# Altium schematic symbol library ARS_lib_SCH.SchLib: 116 symbols (part 1 of 2)
Pins are listed as number, name and electrical type; pins without a type are passive.

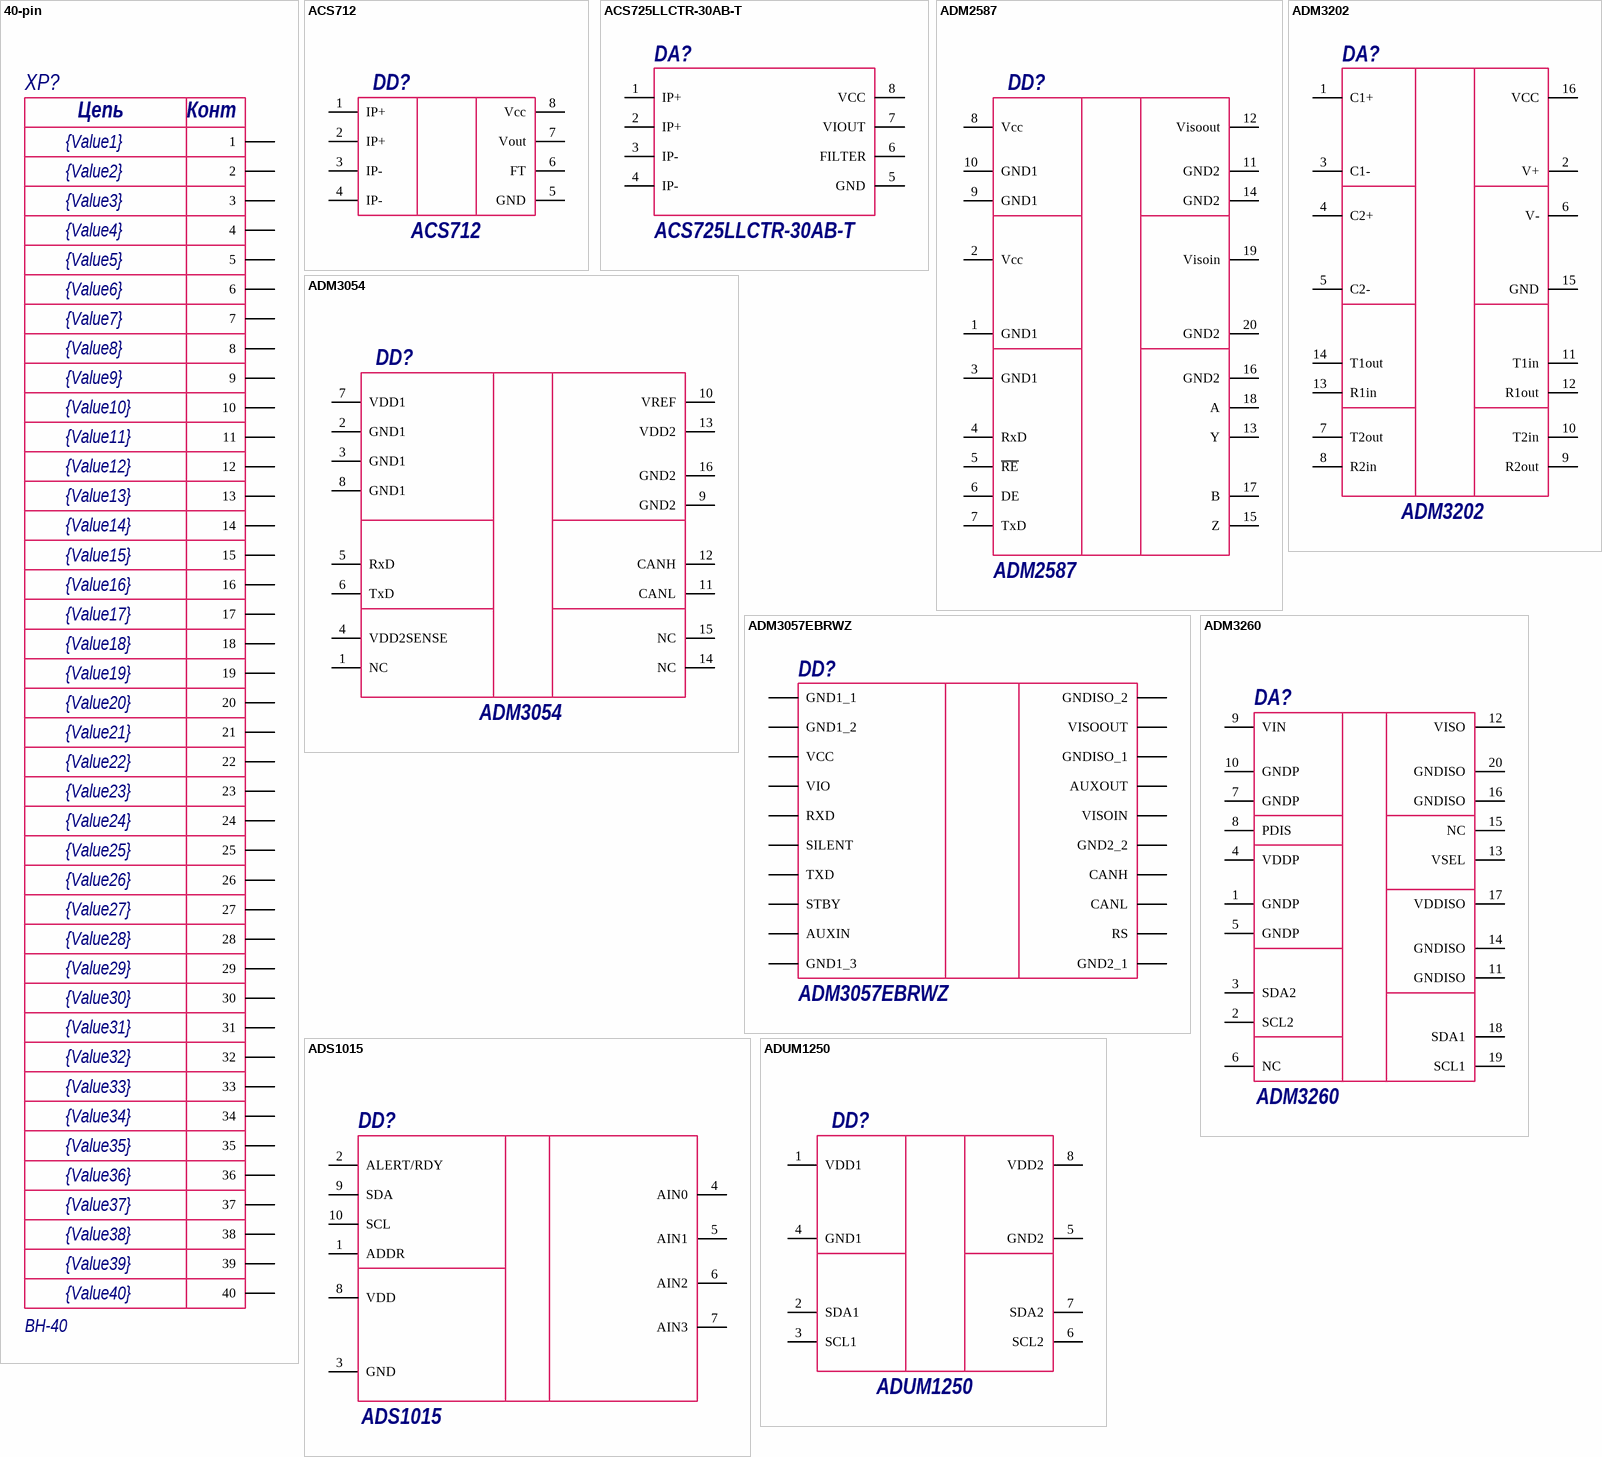
[diagram p0: symbols 40-pin to ADUM1250]

## 40-pin
designator XP?  value BH-40  Value10: {Value10}  Value11: {Value11}  Value12: {Value12}  Value13: {Value13}  Value14: {Value14}  Value15: {Value15}  Value16: {Value16}  Value17: {Value17}  Value18: {Value18}  Value1: {Value1}  Value2: {Value2}  Value3: {Value3}  Value4: {Value4}  Value5: {Value5}  Value6: {Value6}  Value7: {Value7}  Value8: {Value8}  Value9: {Value9}  Value19: {Value19}  Value20: {Value20}  Value21: {Value21}  Value22: {Value22}  Value23: {Value23}  Value24: {Value24}  Value25: {Value25}  Value26: {Value26}  Value27: {Value27}  Value28: {Value28}  Value29: {Value29}  Value30: {Value30}  Value31: {Value31}  Value32: {Value32}  Value33: {Value33}  Value34: {Value34}  Value35: {Value35}  Value36: {Value36}  Value37: {Value37}  Value38: {Value38}  Value39: {Value39}  Value40: {Value40}  (hidden comment: *)
Manufacturer: Connfly; Notice: Вилка-мама 40 пинов, шаг 2.54мм; Rate: 500В AC 1min; Case: корпус; Datasheet: https://lib.chipdip.ru/463/DOC002463525.pdf; Shop: https://www.chipdip.ru/product/idc-40ms
footprint PC - 104 20X2 (Connector; Header; 20x2 Position)
pins: 1, 2, 3, 4, 5, 6, 7, 8, 9, 10, 11, 12, 13, 14, 15, 16, 17, 18, 19, 20, 21, 22, 23, 24, 25, 26, 27, 28, 29, 30, 31, 32, 33, 34, 35, 36, 37, 38, 39, 40
text: Цепь; Конт

## ACS712
designator DD?
Manufacturer: Allegro Microsystems; Rate: 4,5...5,5В; Notice: Датчик постоянного тока на эффекте Холла; Datasheet: http://www.allegromicro.com/~/media/Files/Datasheets/ACS712-Datasheet.ashx; Shop: https://www.chipdip.ru/product/acs712elctr-05b-t; Value: ACS712
footprint SOIC8N (SOIC, 8-Leads, Body 4,90x3,90mm, Pitch 1,27mm, IPC Medium Density)
pins: 1 IP+, 2 IP+, 3 IP-, 4 IP-, 5 GND, 6 FT, 7 Vout, 8 Vcc

## ACS725LLCTR-30AB-T
designator DA?  value ACS725LLCTR-30AB-T  (hidden comment: *)
Датчик тока; New: N; PartNumber: *
footprint SOIC127P600X175-8N
pins: 1 IP+, 2 IP+, 3 IP-, 4 IP-, 5 GND, 6 FILTER, 7 VIOUT, 8 VCC

## ADM2587
designator DD?
Manufacturer: Analog Devies; Notice: Преобразователь RS-485 - UART с развязанным питанием и шиной данных; Rate: -0,5...7,5В; Datasheet: http://www.analog.com/media/en/technical-documentation/data-sheets/ADM2582E_2587E.pdf; Shop: https://ru.aliexpress.com/item/Free-shipping-10PCS-1lot-IC-ADM2587EBRWZ-ADM2587E-2587EBRWZ-SOP-20/32722806856.html?spm=a2g0v.search0302.3.9.s5rrmf&ws_ab_test=searchweb0_0,searchweb201602_0_10073_10152_10151_10536_10538_10537_10539_10055_10154_10211_10056_10155_10059_10312_10314_10534_10313_10533_10060_10084_100031_10083_10129_10107_10128_10307_10341_10065_10142_10340_10068_10343_10541_10342_10125_10169_10301_10345_10103_10543_10102_10344,searchweb201603_0,ppcSwitch_0&algo_pvid=65e5a329-1a38-4845-a227-d5df7d082cf8&algo_expid=65e5a329-1a38-4845-a227-d5df7d082cf8-1
footprint SOICRW-20 (20-Lead Standart Small Outline Package [SOIC_W] Wide Body (RW-20))
pins: 1 GND1 (power), 2 Vcc (power), 3 GND1, 4 RxD, 5 ~{RE}, 6 DE, 7 TxD, 8 Vcc (power), 9 GND1 (power), 10 GND1, 11 GND2 (power), 12 Visoout (power), 13 Y, 14 GND2, 15 Z, 16 GND2, 17 B, 18 A, 19 Visoin (power), 20 GND2 (power)

## ADM3054
designator DD?
Manufacturer: Analog Devies; Notice: Преобразователь RS-485 - UART с развязанным питанием и шиной данных; Rate: -0,5...7,5В; Datasheet: http://www.analog.com/media/en/technical-documentation/data-sheets/ADM2582E_2587E.pdf; Shop: https://ru.aliexpress.com/item/Free-shipping-10PCS-1lot-IC-ADM2587EBRWZ-ADM2587E-2587EBRWZ-SOP-20/32722806856.html?spm=a2g0v.search0302.3.9.s5rrmf&ws_ab_test=searchweb0_0,searchweb201602_0_10073_10152_10151_10536_10538_10537_10539_10055_10154_10211_10056_10155_10059_10312_10314_10534_10313_10533_10060_10084_100031_10083_10129_10107_10128_10307_10341_10065_10142_10340_10068_10343_10541_10342_10125_10169_10301_10345_10103_10543_10102_10344,searchweb201603_0,ppcSwitch_0&algo_pvid=65e5a329-1a38-4845-a227-d5df7d082cf8&algo_expid=65e5a329-1a38-4845-a227-d5df7d082cf8-1
footprint SOIC16-W (SOIC, 16-Leads, Body 10,30x7,50mm, Pitch 1,27mm, IPC Medium Density)
pins: 1 NC (power), 2 GND1 (power), 3 GND1, 4 VDD2SENSE, 5 RxD, 6 TxD, 7 VDD1 (power), 8 GND1 (power), 9 GND2, 10 VREF (power), 11 CANL, 12 CANH, 13 VDD2 (power), 14 NC (power), 15 NC (power), 16 GND2 (power)

## ADM3057EBRWZ
designator DD?
New: N; PartNumber: *; Value: ADM3057EBRWZ
footprint SOIC-20
pins: 1 GND1_1, 2 GND1_2, 3 VCC, 4 VIO, 5 RXD, 6 SILENT, 7 TXD, 8 STBY, 9 AUXIN, 10 GND1_3, 11 GND2_1, 12 RS, 13 CANL, 14 CANH, 15 GND2_2, 16 VISOIN, 17 AUXOUT, 18 GNDISO_1, 19 VISOOUT, 20 GNDISO_2

## ADM3202
designator DA?
Manufacturer: Maxin Integrated; Notice: Высокоскоростной компаратор; Rate: 2,7...5,5В; Datasheet: https://datasheets.maximintegrated.com/en/ds/MAX961-MAX999.pdf; Shop: https://ru.aliexpress.com/item/Free-shipping-10pcs-lot-MAX999EUK-T-MAX999EUK-MAX999EUK-MAX999E-MAX999-IC-COMP-BEYOND-THE-RAILS-SOT23/32327459016.html?spm=a2g0v.search0104.3.9.NvBKPz&ws_ab_test=searchweb0_0,searchweb201602_2_10152_10065_10151_10344_10068_10345_10342_10343_10340_10341_10543_10541_10084_10083_10307_10301_5640015_10060_10155_10154_10056_10055_10539_10538_5370015_10537_10312_10536_10059_10313_10314_10534_10533_100031_10211_10103_10128_10073_10102_10129_10169_10142_10107_10125,searchweb201603_2,ppcSwitch_5&btsid=31b68e71-95a5-4f7a-86e6-35d0c4d1aa2b&algo_expid=dcb29998-31f2-4313-bc28-512c5678a331-1&algo_pvid=dcb29998-31f2-4313-bc28-512c5678a331; Value: ADM3202
footprint SOIC16-Narrow (16-Lead Narrow Body SOIC)
pins: 1 C1+, 2 V+, 3 C1-, 4 C2+, 5 C2-, 6 V-, 7 T2out, 8 R2in, 9 R2out, 10 T2in, 11 T1in, 12 R1out, 13 R1in, 14 T1out, 15 GND, 16 VCC

## ADM3260
designator DA?
Manufacturer: Analog Devices; Rate: 3,3...5,5В; Notice: Развязка I2C и питания; Datasheet: http://www.analog.com/media/en/technical-documentation/data-sheets/ADM3260.pdf; Shop: https://www.terraelectronica.ru/product/2120440; Value: ADM3260
footprint SSOP20 (For ADM3260)
pins: 1 GNDP, 2 SCL2, 3 SDA2, 4 VDDP, 5 GNDP, 6 NC, 7 GNDP, 8 PDIS, 9 VIN, 10 GNDP, 11 GNDISO, 12 VISO, 13 VSEL, 14 GNDISO, 15 NC, 16 GNDISO, 17 VDDISO, 18 SDA1, 19 SCL1, 20 GNDISO

## ADS1015
designator DD?
Manufacturer: Infineon; Notice: Интеллектуальный ключ; Case: PG-TO263-7-1; Value: ADS1015
footprint VSSOP 1mm height (TSSOP, 10-Leads, Body 3,00x3,00mm, Pitch 0,50mm, IPC Medium Density)
pins: 1 ADDR, 2 ALERT/RDY, 3 GND, 4 AIN0, 5 AIN1, 6 AIN2, 7 AIN3, 8 VDD, 9 SDA, 10 SCL

## ADUM1250
designator DD?
Manufacturer: Analog Devies; Notice: Преобразователь RS-485 - UART с развязанным питанием и шиной данных; Rate: -0,5...7,5В; Datasheet: http://www.analog.com/media/en/technical-documentation/data-sheets/ADM2582E_2587E.pdf; Shop: https://ru.aliexpress.com/item/Free-shipping-10PCS-1lot-IC-ADM2587EBRWZ-ADM2587E-2587EBRWZ-SOP-20/32722806856.html?spm=a2g0v.search0302.3.9.s5rrmf&ws_ab_test=searchweb0_0,searchweb201602_0_10073_10152_10151_10536_10538_10537_10539_10055_10154_10211_10056_10155_10059_10312_10314_10534_10313_10533_10060_10084_100031_10083_10129_10107_10128_10307_10341_10065_10142_10340_10068_10343_10541_10342_10125_10169_10301_10345_10103_10543_10102_10344,searchweb201603_0,ppcSwitch_0&algo_pvid=65e5a329-1a38-4845-a227-d5df7d082cf8&algo_expid=65e5a329-1a38-4845-a227-d5df7d082cf8-1
footprint SOIC_8N (for operational amplifier)
pins: 1 VDD1 (power), 2 SDA1 (power), 3 SCL1, 4 GND1, 5 GND2, 6 SCL2 (power), 7 SDA2 (power), 8 VDD2

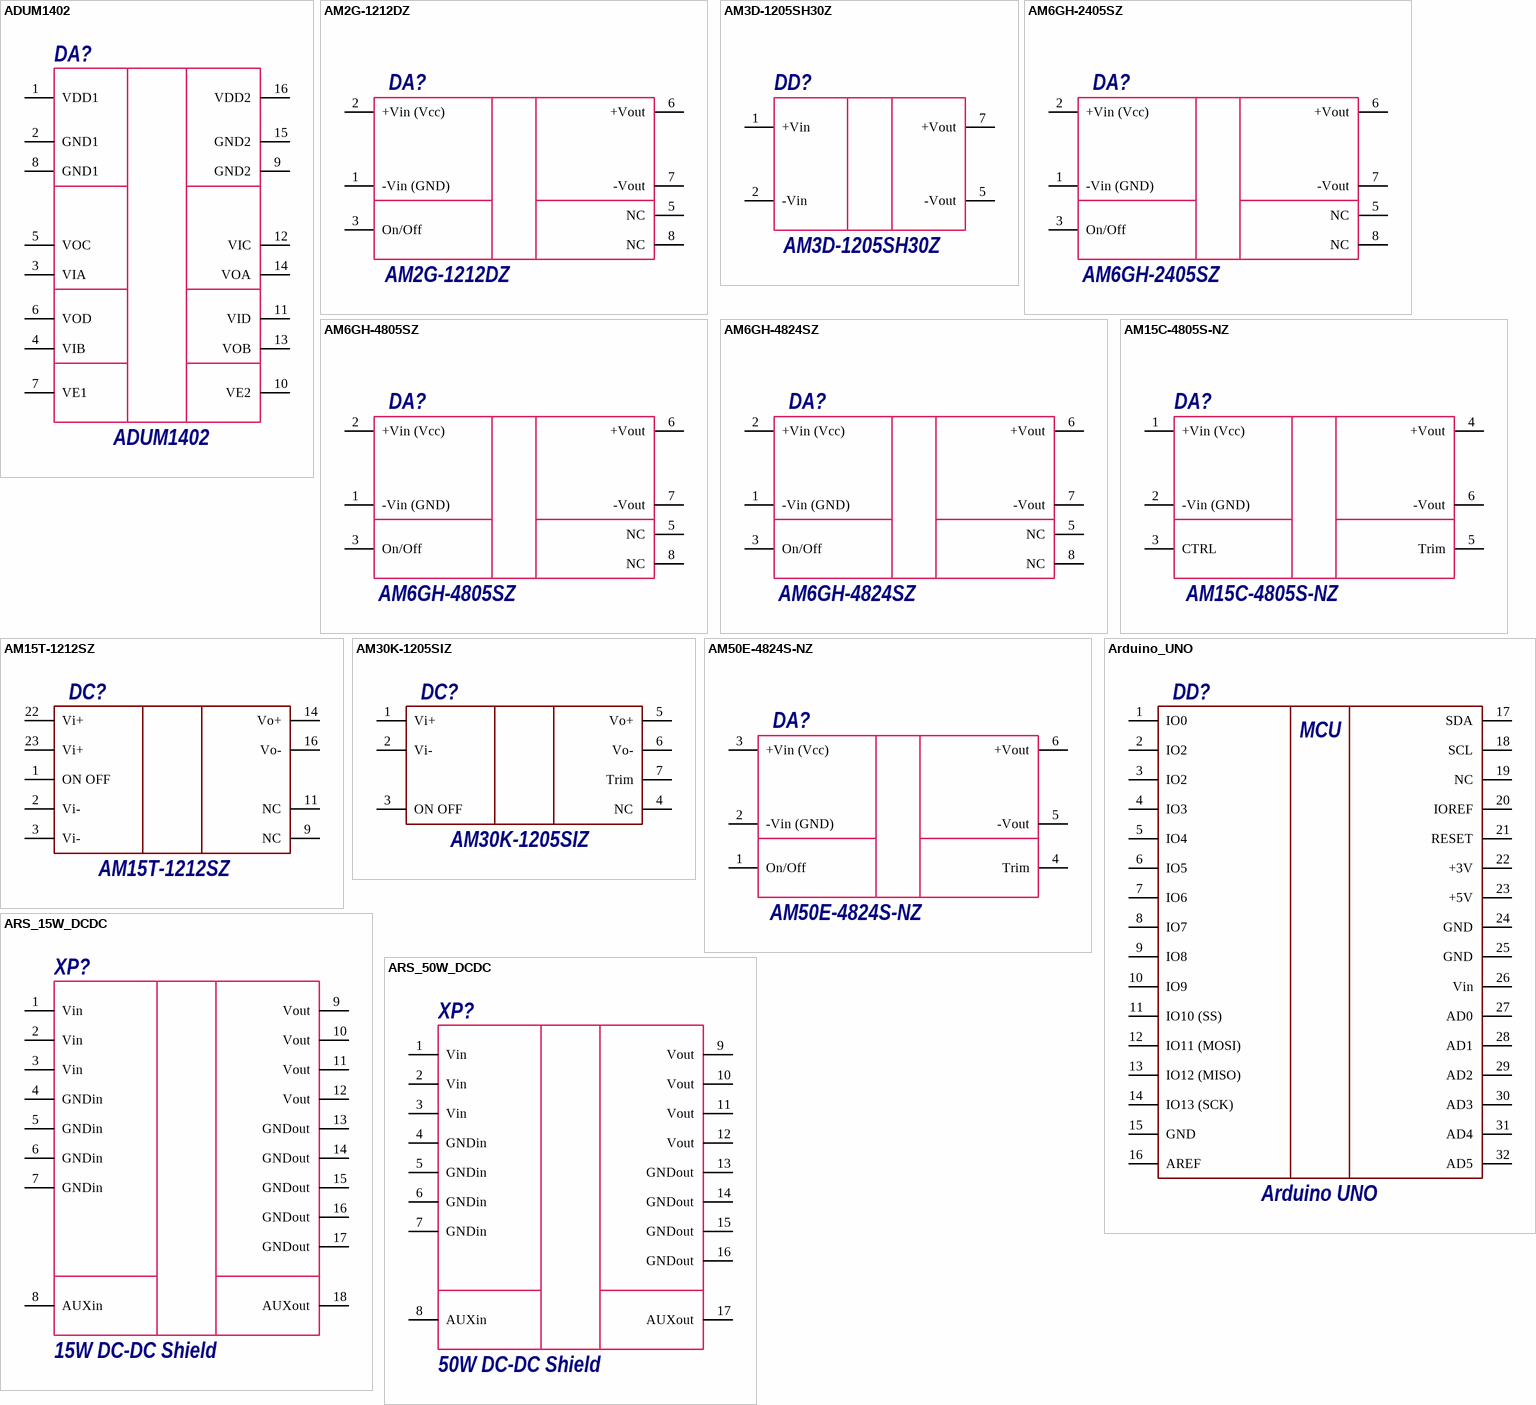
[diagram p1: symbols ADUM1402 to ARS_50W_DCDC]

## ADUM1402
designator DA?
Manufacturer: Maxin Integrated; Notice: Высокоскоростной компаратор; Rate: 2,7...5,5В; Datasheet: https://datasheets.maximintegrated.com/en/ds/MAX961-MAX999.pdf; Shop: https://ru.aliexpress.com/item/Free-shipping-10pcs-lot-MAX999EUK-T-MAX999EUK-MAX999EUK-MAX999E-MAX999-IC-COMP-BEYOND-THE-RAILS-SOT23/32327459016.html?spm=a2g0v.search0104.3.9.NvBKPz&ws_ab_test=searchweb0_0,searchweb201602_2_10152_10065_10151_10344_10068_10345_10342_10343_10340_10341_10543_10541_10084_10083_10307_10301_5640015_10060_10155_10154_10056_10055_10539_10538_5370015_10537_10312_10536_10059_10313_10314_10534_10533_100031_10211_10103_10128_10073_10102_10129_10169_10142_10107_10125,searchweb201603_2,ppcSwitch_5&btsid=31b68e71-95a5-4f7a-86e6-35d0c4d1aa2b&algo_expid=dcb29998-31f2-4313-bc28-512c5678a331-1&algo_pvid=dcb29998-31f2-4313-bc28-512c5678a331; Value: ADUM1402
footprint SOIC16-W (SOIC, 16-Leads, Body 10,30x7,50mm, Pitch 1,27mm, IPC Medium Density)
pins: 1 VDD1, 2 GND1, 3 VIA, 4 VIB, 5 VOC, 6 VOD, 7 VE1, 8 GND1, 9 GND2, 10 VE2, 11 VID, 12 VIC, 13 VOB, 14 VOA, 15 GND2, 16 VDD2

## AM2G-1212DZ
designator DA?
Manufacturer: Aimtec; Rate: 9..18В; Notice: Преобразователь напряжения 2 ватта; Datasheet: http://www.aimtec.com/site/Aimtec/files/Datasheet/HighResolution/AM2G-Z.pdf?ft4=53-390; Shop: https://e-components.ru/item/am-2-g-1212-dz; Case: SIP; Value: AM2G-1212DZ
footprint SIP-8 7 PINS
pins: 1 -Vin (GND), 2 +Vin (Vcc), 3 On/Off, 5 NC, 6 +Vout, 7 -Vout, 8 NC

## AM3D-1205SH30Z
designator DD?
Manufacturer: AIMTEC; Rate: 10,8…13,2В; Shop: ЭЛТЕХ-СПБ; Datasheet: http://www.aimtec.com/site/Aimtec/files/Datasheet/HIGHResolution/AM3D-Z.PDF; Notice: *; Case: SIP7; Value: AM3D-1205SH30Z
footprint AM3D-1205SH30Z
pins: 1 +Vin, 2 -Vin, 5 -Vout, 7 +Vout

## AM6GH-2405SZ
designator DA?
Manufacturer: Aimtec; Datasheet: http://www.aimtec.com/site/Aimtec/files/Datasheet/HighResolution/AM2G-Z.pdf?ft4=53-390; Case: SIP; Value: AM6GH-2405SZ
footprint AM6GH-4805SZ
pins: 1 -Vin (GND), 2 +Vin (Vcc), 3 On/Off, 5 NC, 6 +Vout, 7 -Vout, 8 NC

## AM6GH-4805SZ
designator DA?
Manufacturer: Aimtec; Rate: 9..18В; Notice: Преобразователь напряжения 2 ватта; Datasheet: http://www.aimtec.com/site/Aimtec/files/Datasheet/HighResolution/AM2G-Z.pdf?ft4=53-390; Shop: https://e-components.ru/item/am-2-g-1212-dz; Case: SIP; Value: AM6GH-4805SZ
footprint AM6GH-4805SZ
pins: 1 -Vin (GND), 2 +Vin (Vcc), 3 On/Off, 5 NC, 6 +Vout, 7 -Vout, 8 NC

## AM6GH-4824SZ
designator DA?
Manufacturer: Aimtec; Rate: 9..18В; Notice: Преобразователь напряжения 2 ватта; Datasheet: http://www.aimtec.com/site/Aimtec/files/Datasheet/HighResolution/AM2G-Z.pdf?ft4=53-390; Shop: https://e-components.ru/item/am-2-g-1212-dz; Case: SIP; Value: AM6GH-4824SZ
footprint AM6GH-4805SZ
pins: 1 -Vin (GND), 2 +Vin (Vcc), 3 On/Off, 5 NC, 6 +Vout, 7 -Vout, 8 NC

## AM15C-4805S-NZ
designator DA?
Manufacturer: Aimtec; Rate: 9..18В; Notice: Преобразователь напряжения 2 ватта; Datasheet: http://www.aimtec.com/site/Aimtec/files/Datasheet/HighResolution/AM2G-Z.pdf?ft4=53-390; Shop: https://e-components.ru/item/am-2-g-1212-dz; Case: SIP; Value: AM15C-4805S-NZ
footprint AM15C-????S-NZ
pins: 1 +Vin (Vcc), 2 -Vin (GND), 3 CTRL, 4 +Vout, 5 Trim, 6 -Vout

## AM15T-1212SZ
designator DC?  value AM15T-1212SZ  (hidden comment: *)
Manufacturer: Aimtec; Notice: 15 ваттный DC-DC преобразователь; Rate: 9...18В; Datasheet: http://www.aimtec.com/site/Aimtec/files/Datasheet/HighResolution/AM15T-Z.pdf; Shop: http://www.eltech.spb.ru/item/am15t_1212sz
footprint AM15T-1212SZ
pins: 1 ON OFF, 2 Vi-, 3 Vi-, 9 NC, 11 NC, 14 Vo+, 16 Vo-, 22 Vi+, 23 Vi+

## AM30K-1205SIZ
designator DC?  value AM30K-1205SIZ  (hidden comment: *)
Manufacturer: Aimtec; Notice: 30 ваттный DC-DC преобразователь; Rate: 9...18В; Datasheet: http://www.aimtec.com/site/Aimtec/files/Datasheet/HighResolution/AM30K-I-Z.pdf; Shop: https://www.eltech.spb.ru/item/am30k_1205siz
footprint AM30K-1205SIZ
pins: 1 Vi+, 2 Vi-, 3 ON OFF, 4 NC, 5 Vo+, 6 Vo-, 7 Trim

## AM50E-4824S-NZ
designator DA?
Manufacturer: Aimtec; Rate: 9..18В; Notice: Преобразователь напряжения 2 ватта; Datasheet: http://www.aimtec.com/site/Aimtec/files/Datasheet/HighResolution/AM2G-Z.pdf?ft4=53-390; Shop: https://e-components.ru/item/am-2-g-1212-dz; Case: SIP; Value: AM50E-4824S-NZ
footprint AM50E-4824S-NZ
pins: 1 On/Off, 2 -Vin (GND), 3 +Vin (Vcc), 4 Trim, 5 -Vout, 6 +Vout

## Arduino_UNO
designator DD?  value Arduino UNO  Value1: MCU  (hidden comment: *)
Manufacturer: Arduino; Notice: Микроконтроллерная плата; Rate: 6...20В; Datasheet: https://www.farnell.com/datasheets/1682209.pdf
footprint ARDUINO_UNO
pins: 1 IO0, 2 IO2, 3 IO2, 4 IO3, 5 IO4, 6 IO5, 7 IO6, 8 IO7, 9 IO8, 10 IO9, 11 IO10 (SS), 12 IO11 (MOSI), 13 IO12 (MISO), 14 IO13 (SCK), 15 GND, 16 AREF, 17 SDA, 18 SCL, 19 NC, 20 IOREF, 21 RESET, 22 +3V, 23 +5V, 24 GND, 25 GND, 26 Vin, 27 AD0, 28 AD1, 29 AD2, 30 AD3, 31 AD4, 32 AD5

## ARS_15W_DCDC
designator XP?  value 15W DC-DC Shield  (hidden comment: *)
footprint ARS_15W_DCDC_Shield
pins: 1 Vin, 2 Vin, 3 Vin, 4 GNDin, 5 GNDin, 6 GNDin, 7 GNDin, 8 AUXin, 9 Vout, 10 Vout, 11 Vout, 12 Vout, 13 GNDout, 14 GNDout, 15 GNDout, 16 GNDout, 17 GNDout, 18 AUXout

## ARS_50W_DCDC
designator XP?  value 50W DC-DC Shield  (hidden comment: *)
footprint ARS_50W_DCDC_Shield
pins: 1 Vin, 2 Vin, 3 Vin, 4 GNDin, 5 GNDin, 6 GNDin, 7 GNDin, 8 AUXin, 9 Vout, 10 Vout, 11 Vout, 12 Vout, 13 GNDout, 14 GNDout, 15 GNDout, 16 GNDout, 17 AUXout

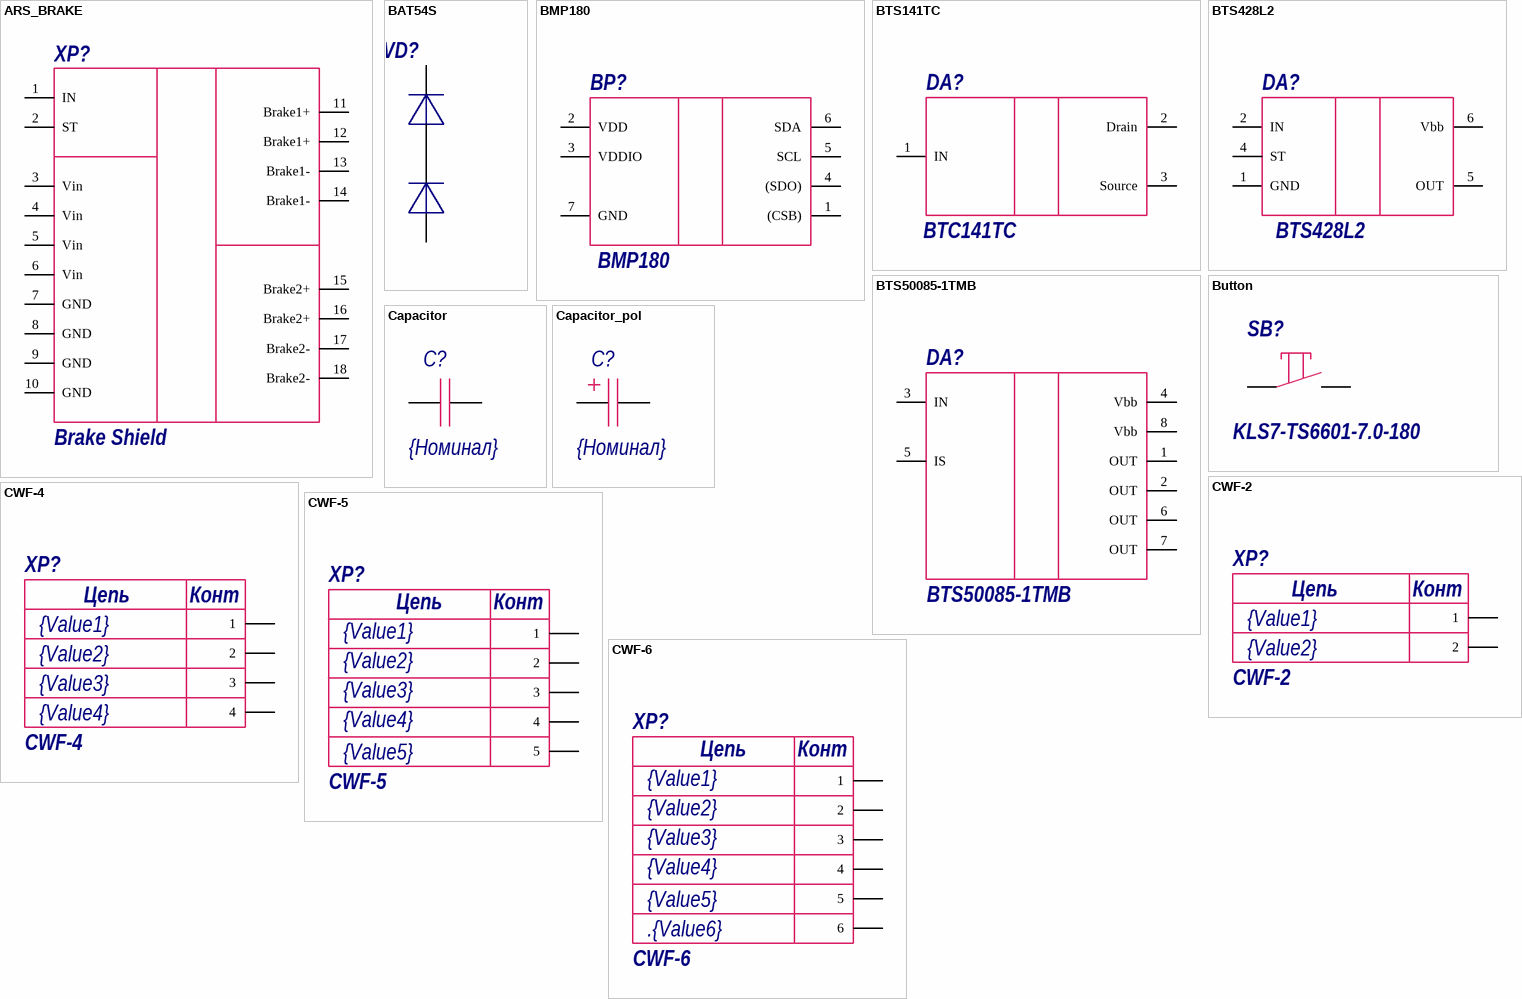
[diagram p2: symbols ARS_BRAKE to CWF-6]

## ARS_BRAKE
designator XP?  value Brake Shield  (hidden comment: *)
footprint ARS_BRAKE_SHIELD
pins: 1 IN, 2 ST, 3 Vin, 4 Vin, 5 Vin, 6 Vin, 7 GND, 8 GND, 9 GND, 10 GND, 11 Brake1+, 12 Brake1+, 13 Brake1-, 14 Brake1-, 15 Brake2+, 16 Brake2+, 17 Brake2-, 18 Brake2-

## BAT54S
designator VD?
Manufactore: Philips; Rate: 30В; Case: SOT23; Datasheet: https://lib.chipdip.ru/205/DOC000205087.pdf
footprint SOT23
pins: 1, 2, 3

## BMP180
designator BP?
Manufactore: Bosch; Rate: 1,62...3,6В; Notice: Цифровой датчик давления; Datasheet: https://cdn-shop.adafruit.com/datasheets/BST-BMP180-DS000-09.pdf; Shop: http://www.electronshik.ru/item/bmp180-982764; Value: BMP180
footprint LGA7C147P3X3_380X360X100 (LGA, 7-Leads, Body 3,80x3,60mmx1,00mm, Pitch 1,47mm)
pins: 1 (CSB), 2 VDD, 3 VDDIO, 4 (SDO), 5 SCL, 6 SDA, 7 GND

## BTS141TC
designator DA?, comment BTC141TC
Интеллектуальный High-side ключ; Manufacturer: Infineon; Notice: Интеллектуальный High-side ключ; Value: BTC141TC
pins: 1 IN, 2 Drain, 3 Source

## BTS428L2
designator DA?
Интеллектуальный High-side ключ; Manufacturer: Infineon; Notice: Интеллектуальный High-side ключ; Value: BTS428L2
footprint P-TO252-5-1 (D-PAK, 5-Pads, Body 6,21x6,69mm (max), IPC Medium Density)
pins: 1 GND, 2 IN, 4 ST, 5 OUT, 6 Vbb

## BTS50085-1TMB
designator DA?
Интеллектуальный High-side ключ; Manufacturer: Infineon; New: Y, Sch; Notice: Интеллектуальный High-side ключ; PartNumber: BTS50085-1TMB; Value: BTS50085-1TMB
footprint PG-TO220-7-4
pins: 1 OUT, 2 OUT, 3 IN, 4 Vbb, 5 IS, 6 OUT, 7 OUT, 8 Vbb

## Button
designator SB?  value KLS7-TS6601-7.0-180  (hidden comment: *)
New: NO; PartNumber: *
footprint Button 6x6x7
pins: 1, 3

## Capacitor
designator C?  value {Номинал}  (hidden comment: Capacitor)
PartNumber: {PartNumber}; New: N
footprint 0603C (Chip Resistor, 2-Leads, Body 1,40x0,80mm, IPC Medium Density)
footprint 0805C
footprint CAPACITOR FILM 6x11x7.2
footprint 1210C
pins: 1, 2

## Capacitor_pol
designator C?, comment value {Номинал}  (hidden comment: 1uF)
New: N; PartNumber: *
footprint TC_A (3216) (Tantalum capacitor, type A,  1 pin - plus)
footprint TC_E (7343H) (Tantalum capacitor, type E, 1 pin - plus)
footprint TC_D (7343) (Tantalum capacitor, type D, 1 pin - plus)
footprint TC_C (6032) (Tantalum capacitor, type C, 1 pin - plus)
footprint TC_B (3528) (Tantalum capacitor, type B, 1 pin - plus)
footprint Capacitor 5x11
footprint Capacitor 8x12
footprint Capacitor 10x12
footprint Capacitor 16x25
footprint Capacitor 10x20
footprint Capacitor 8x7
footprint Capacitor 4x7
footprint Capacitor 6.3x12
footprint d8x9.2
footprint 1210C
pins: 1, 2

## CWF-2
designator XP?  value CWF-2  Value1: {Value1}  Value2: {Value2}  (hidden comment: *)
Manufacturer: Connfly; Notice: Вилка-мама 2 пина, шаг 2.5мм; Rate: 500В AC 1min; Case: корпус; Datasheet: https://lib.chipdip.ru/413/DOC001413777.pdf; Shop: https://www.chipdip.ru/product/cwf-2
footprint CWF-2 (перемычка для плат)
pins: 1, 2
text: Цепь; Конт

## CWF-4
designator XP?  value CWF-4  Value1: {Value1}  Value2: {Value2}  Value3: {Value3}  Value4: {Value4}  (hidden comment: *)
Manufactore: Connfly; Notice: Вилка-мама 4 пина, шаг 2.5мм; Rate: 500В AC 1min; Case: корпус; Datasheet: https://lib.chipdip.ru/413/DOC001413777.pdf; Shop: https://www.chipdip.ru/product/cwf-4
footprint CWF-4
pins: 1, 2, 3, 4
text: Цепь; Конт

## CWF-5
designator XP?  value CWF-5  Value1: {Value1}  Value2: {Value2}  Value3: {Value3}  Value4: {Value4}  Value5: {Value5}  (hidden comment: *)
Notice: Вилка-мама 5 пинов, шаг 2.5мм; Rate: 500В AC 1min; Case: корпус; Datasheet: https://lib.chipdip.ru/413/DOC001413777.pdf; Manufactore: CWF-5; Shop: https://www.chipdip.ru/product/cwf-5
footprint CWF-5
pins: 1, 2, 3, 4, 5
text: Цепь; Конт

## CWF-6
designator XP?  value CWF-6  Value1: {Value1}  Value2: {Value2}  Value3: {Value3}  Value4: {Value4}  Value5: {Value5}  Value6: .{Value6}  (hidden comment: *)
Manufactore: CWF-5; Notice: Вилка-мама 5 пинов, шаг 2.5мм; Rate: 500В AC 1min; Case: корпус; Datasheet: https://lib.chipdip.ru/413/DOC001413777.pdf; Shop: https://www.chipdip.ru/product/cwf-5
footprint CWF-6
pins: 1, 2, 3, 4, 5, 6
text: Цепь; Конт

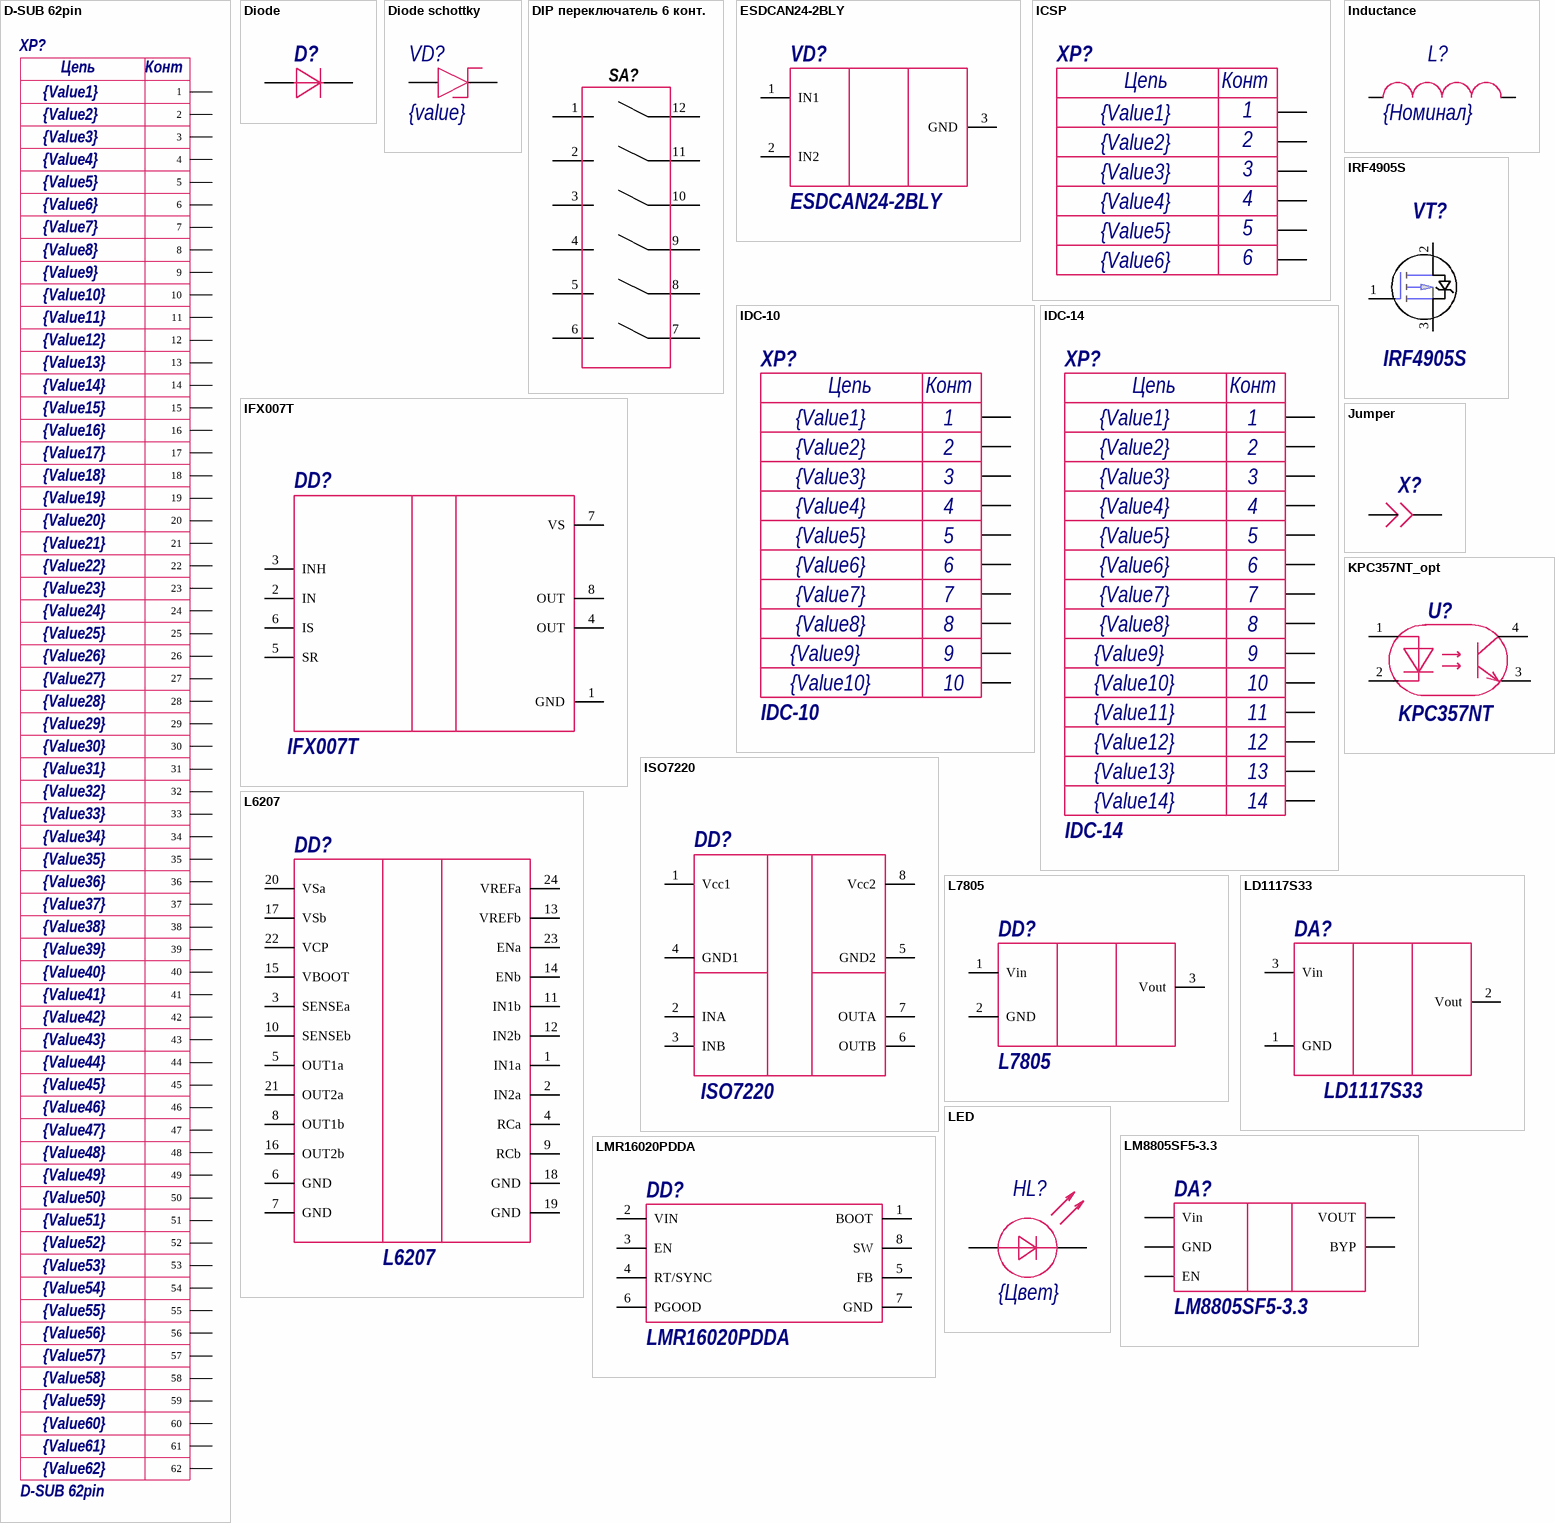
[diagram p3: symbols D-SUB 62pin to LMR16020PDDA]

## D-SUB 62pin
designator XP?  value D-SUB 62pin  Value62: {Value62}  Value61: {Value61}  Value60: {Value60}  Value59: {Value59}  Value58: {Value58}  Value57: {Value57}  Value56: {Value56}  Value55: {Value55}  Value54: {Value54}  Value52: {Value52}  Value53: {Value53}  Value51: {Value51}  Value50: {Value50}  Value48: {Value48}  Value49: {Value49}  Value47: {Value47}  Value46: {Value46}  Value45: {Value45}  Value44: {Value44}  Value43: {Value43}  Value42: {Value42}  Value41: {Value41}  Value10: {Value10}  Value11: {Value11}  Value12: {Value12}  Value13: {Value13}  Value14: {Value14}  Value15: {Value15}  Value16: {Value16}  Value17: {Value17}  Value18: {Value18}  Value1: {Value1}  Value2: {Value2}  Value3: {Value3}  Value4: {Value4}  Value5: {Value5}  Value6: {Value6}  Value7: {Value7}  Value8: {Value8}  Value9: {Value9}  Value19: {Value19}  Value20: {Value20}  Value21: {Value21}  Value22: {Value22}  Value23: {Value23}  Value24: {Value24}  Value25: {Value25}  Value26: {Value26}  Value27: {Value27}  Value28: {Value28}  Value29: {Value29}  Value30: {Value30}  Value31: {Value31}  Value32: {Value32}  Value33: {Value33}  Value34: {Value34}  Value35: {Value35}  Value36: {Value36}  Value37: {Value37}  Value38: {Value38}  Value39: {Value39}  Value40: {Value40}  (hidden comment: *)
Manufacturer: Connfly; Notice: Вилка штырьевая 40 пинов, шаг 2,54мм; Rate: 500В AC 1min; Datasheet: https://lib.chipdip.ru/463/DOC002463525.pdf; Shop: https://www.chipdip.ru/product/pld-40
footprint HARTING 09 56 451 7500 (62 contact D-SUB)
pins: 1, 2, 3, 4, 5, 6, 7, 8, 9, 10, 11, 12, 13, 14, 15, 16, 17, 18, 19, 20, 21, 22, 23, 24, 25, 26, 27, 28, 29, 30, 31, 32, 33, 34, 35, 36, 37, 38, 39, 40, 41, 42, 43, 44, 45, 46, 47, 48, 49, 50, 51, 52, 53, 54, 55, 56, 57, 58, 59, 60, 61, 62
text: Цепь; Конт

## Diode
designator D?
Value: {Номинал}; New: N; PartNumber: *
footprint SODFL-123
footprint DO-214AA (Molded Diode, 2-Leads, Body 4,60x3,65mm, IPC Medium Density)
footprint TO220AC
pins: 1, 2

## Diode schottky
designator VD?, comment {value}
New: N; PartNumber: {value}; Value: {value}
footprint SMA
pins: 1, 2

## DIP переключатель 6 конт.
designator SA?
Value: *
footprint SW-6
pins: 1, 2, 3, 4, 5, 6, 7, 8, 9, 10, 11, 12

## ESDCAN24-2BLY
designator VD?  value ESDCAN24-2BLY  (hidden comment: *)
Manufactore: SEMTECH; Notice: Защита RS-485; Rate: 12В; New: N; Datasheet: http://www.semtech.com/images/datasheet/sm712.pdf; Shop: https://www.chipdip.ru/product/sm712.tct; Case: SOT23; PartNumber: *
footprint SOT23-3L
pins: 1 IN1, 2 IN2, 3 GND

## ICSP
designator XP?  Value1: {Value1}  Value2: {Value2}  Value6: {Value6}  Value5: {Value5}  Value3: {Value3}  Value4: {Value4}  (hidden comment: *)
Notice: Вилка программатора
footprint ICSP
pins: 1, 2, 3, 4, 5, 6
text: Цепь; Конт

## IDC-10
designator XP?  value IDC-10  Value1: {Value1}  Value2: {Value2}  Value3: {Value3}  Value4: {Value4}  Value5: {Value5}  Value6: {Value6}  Value7: {Value7}  Value8: {Value8}  Value9: {Value9}  Value10: {Value10}  (hidden comment: *)
Manufacturer: Zhenqin; Notice: Вилка-мама 14 пинов, шаг 2.54мм; Rate: 1000В AC 1min; Datasheet: https://lib.chipdip.ru/273/DOC000273693.pdf; Shop: https://www.chipdip.ru/product/idc-14f
footprint IDC-10 (IDC-10 Male Connector)
pins: 1, 2, 3, 4, 5, 6, 7, 8, 9, 10
text: Цепь; Конт

## IDC-14
designator XP?  value IDC-14  Value1: {Value1}  Value2: {Value2}  Value3: {Value3}  Value4: {Value4}  Value5: {Value5}  Value6: {Value6}  Value7: {Value7}  Value8: {Value8}  Value9: {Value9}  Value10: {Value10}  Value11: {Value11}  Value12: {Value12}  Value13: {Value13}  Value14: {Value14}  (hidden comment: *)
Manufacturer: Zhenqin; Notice: Вилка-мама 14 пинов, шаг 2.54мм; Rate: 1000В AC 1min; Datasheet: https://lib.chipdip.ru/273/DOC000273693.pdf; Shop: https://www.chipdip.ru/product/idc-14f
footprint IDC-14MC (IDC-14 Male Connector)
pins: 1, 2, 3, 4, 5, 6, 7, 8, 9, 10, 11, 12, 13, 14
text: Цепь; Конт

## IFX007T
designator DD?
Manufacturer: Infineon; Notice: Интеллектуальный ключ; Case: PG-TO263-7-1; Value: IFX007T
footprint PG-TO263-7-1 (D2-PAK, 8-Pads, Body 7,82x8,46mm (max), IPC Medium Density)
pins: 1 GND, 2 IN, 3 INH, 4 OUT, 5 SR, 6 IS, 7 VS, 8 OUT

## Inductance
designator L?  value {Номинал}  (hidden comment: *)
New: N; PartNumber: *
footprint 0603L (Chip Inductor, 2-Leads, Body 1,55x0,85mm, IPC Medium Density)
footprint 0402
footprint 8.6x8.7x4
footprint SRN6045_1
footprint 12.3 x 12.3 x 8
pins: 1, 2

## IRF4905S
designator VT?  value IRF4905S  (hidden comment: *)
Manufacturer: International Rectifier; Notice: P-канальный MOSFET транзистор; Rate: -20...20В Затвор-исток; Datasheet: http://www.irf.com/product-info/datasheets/data/irf4905s.pdf; Shop: https://www.chipdip.ru/product/irf4905
footprint D2PAK (D2-PAK, 3-Pads, Body 8,21x8,63mm (max), IPC Medium Density)
pins: 1, 2, 3

## ISO7220
designator DD?
Manufacturer: Infineon; Notice: Интеллектуальный ключ; Case: PG-TO263-7-1; Value: ISO7220
pins: 1 Vcc1, 2 INA, 3 INB, 4 GND1, 5 GND2, 6 OUTB, 7 OUTA, 8 Vcc2

## Jumper
designator X?  (value not drawn)
Manufacturer: производитель; Rate: уровень напряжений; Shop: магазин с самой дешевой ценой; Notice: перемычка; Datasheet: ссылка на даташит; Case: корпус
footprint Fused Jumper (Solder fused jumper)
footprint PLD2
pins: 1 M2,5, 2 M2,5

## KPC357NT_opt
designator U?, comment KPC357NT
Manufacturer: Cosmo Electronics; Notice: Оптопара с фототранзистором; Rate: -5...80В Коллектор-эмиттер, 6В - обратное напряжение диода; Datasheet: http://www.cosmo-ic.com/object/products/KPC357NT.pdf; Shop: https://www.chipdip.ru/product/kpc357nt; Value: KPC357NT
footprint OPTRON
pins: 1, 2, 3, 4

## L6207
designator DD?
Manufacturer: ST Microelectronics; Notice: КМОП-драйвер с ШИМ; Rate: -0,3...7В - цифровое, 8...60В - силовое; Datasheet: http://www.st.com/content/ccc/resource/technical/document/datasheet/4f/3d/e2/db/94/78/40/93/CD00002293.pdf/files/CD00002293.pdf/jcr:content/translations/en.CD00002293.pdf; Shop: https://ru.aliexpress.com/item/10pcs-lot-L6207D013TR-L6207D-L6207-SOP24/32709430801.html?spm=a2g0v.search0302.3.8.qwH52J&ws_ab_test=searchweb0_0,searchweb201602_0_10073_10152_10151_10536_10538_10537_10539_10055_10154_10211_10056_10155_10059_10312_10314_10534_10313_10533_10060_10084_100031_10083_10129_10107_10128_10307_10341_10065_10142_10340_10068_10343_10541_10342_10125_10169_10301_10345_10103_10543_10102_10344,searchweb201603_0,ppcSwitch_0&algo_pvid=a021a9ff-919b-413d-924d-a9c531deb961&algo_expid=a021a9ff-919b-413d-924d-a9c531deb961-1; Value: L6207
footprint SO24
pins: 1 IN1a, 2 IN2a, 3 SENSEa, 4 RCa, 5 OUT1a, 6 GND, 7 GND, 8 OUT1b, 9 RCb, 10 SENSEb, 11 IN1b, 12 IN2b, 13 VREFb, 14 ENb, 15 VBOOT, 16 OUT2b, 17 VSb, 18 GND, 19 GND, 20 VSa, 21 OUT2a, 22 VCP, 23 ENa, 24 VREFa

## L7805
designator DD?  value L7805
L7805_stab 12->5; Manufacturer: ST Microelectronics; Notice: Стабилизатор напряжения +5В; Rate: ...35В; Datasheet: http://www.st.com/content/ccc/resource/technical/document/datasheet/41/4f/b3/b0/12/d4/47/88/CD00000444.pdf/files/CD00000444.pdf/jcr:content/translations/en.CD00000444.pdf; Shop: https://www.chipdip.ru/product/l7805cv
footprint DPAK (D-PAK, 3-Pads, Body 6.20x6.66mm (max), IPC Medium Density)
pins: 1 Vin, 2 GND, 3 Vout

## LD1117S33
designator DA?
Manufacturer: ST Microelectronics; Notice: Стабилизатор напряжения 3,3В; Rate: 0...15В; Datasheet: https://lib.chipdip.ru/168/DOC001168686.pdf; Shop: https://www.chipdip.ru/product/ld1117v33; Case: SOT223; Value: LD1117S33
footprint SOT223 (SOT223, ld1117)
pins: 1 GND, 2 Vout, 3 Vin

## LED
designator HL?  Color: {Цвет}
Manufacturer: -; Rate: -; Datasheet: -; Shop: -; Notice: -; Case: -
footprint 0805D
pins: 1, 2

## LM8805SF5-3.3
designator DA?  value LM8805SF5-3.3  (hidden comment: *)
New: NO; PartNumber: *
footprint SOT23-5L
pins: 1 Vin, 2 GND, 3 EN, 4 BYP, 5 VOUT

## LMR16020PDDA
designator DD?
New: N; PartNumber: *; Value: LMR16020PDDA
footprint SOIC127P600X170-9N
pins: 1 BOOT, 2 VIN, 3 EN, 4 RT/SYNC, 5 FB, 6 PGOOD, 7 GND, 8 SW

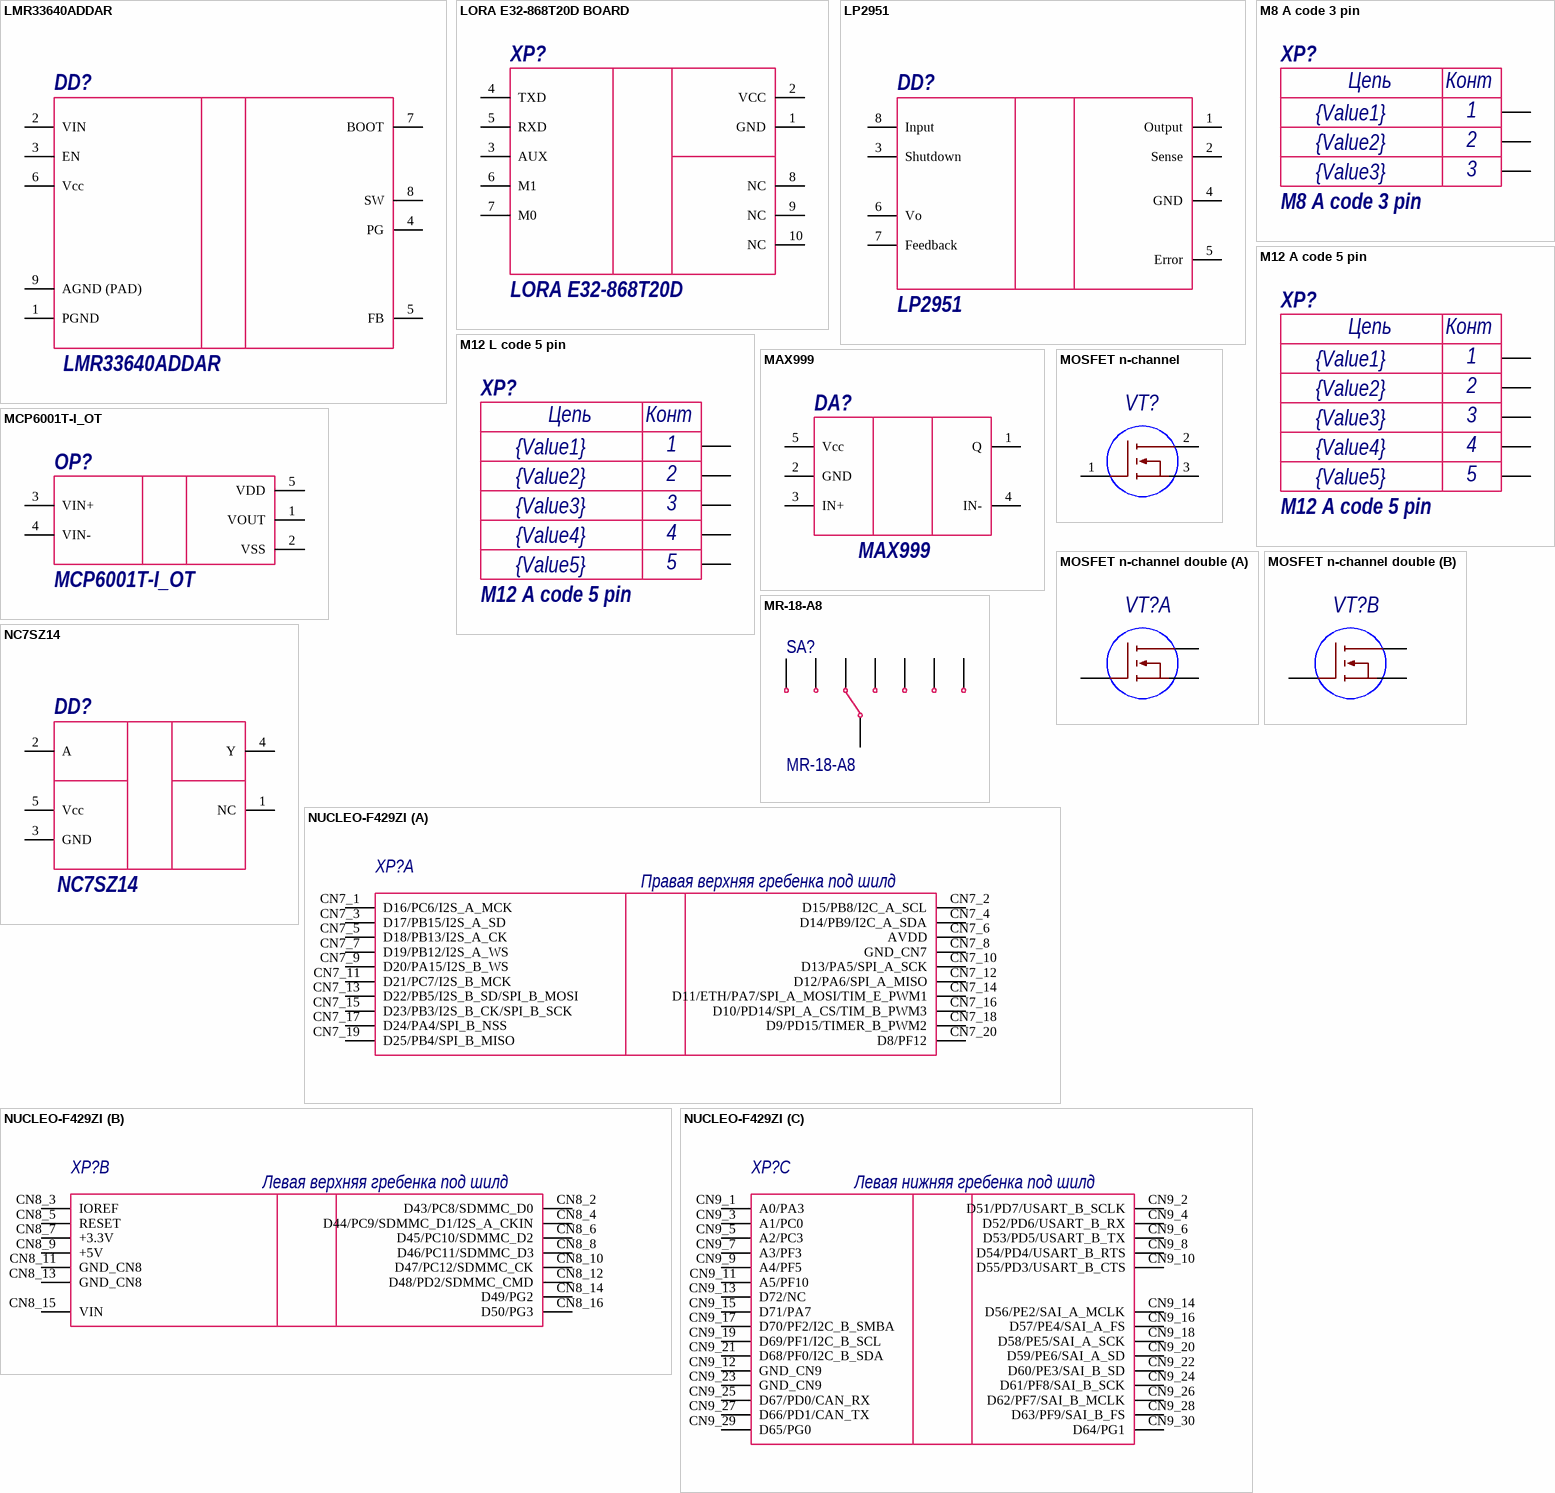
[diagram p4: symbols LMR33640ADDAR to NUCLEO-F429ZI]

## LMR33640ADDAR
designator DD?
Manufacturer: AIMTEC; Rate: 10,8…13,2В; Shop: ЭЛТЕХ-СПБ; New: Y, ftp; Datasheet: http://www.aimtec.com/site/Aimtec/files/Datasheet/HIGHResolution/AM3D-Z.PDF; Notice: *; Case: SIP7; PartNumber: *; Value: LMR33640ADDAR
footprint SOIC_8N (for operational amplifier)
footprint SOIC127P600X170-9N
pins: 1 PGND, 2 VIN, 3 EN, 4 PG, 5 FB, 6 Vcc, 7 BOOT, 8 SW, 9 AGND (PAD)

## LORA E32-868T20D BOARD
designator XP?  value LORA E32-868T20D  (hidden comment: *)
footprint LORA E32-868T20D BOARD
pins: 1 GND, 2 VCC, 3 AUX, 4 TXD, 5 RXD, 6 M1, 7 M0, 8 NC, 9 NC, 10 NC

## LP2951
designator DD?
Manufacturer: Analog Devies; Notice: Преобразователь RS-485 - UART с развязанным питанием и шиной данных; Rate: -0,5...7,5В; Datasheet: http://www.analog.com/media/en/technical-documentation/data-sheets/ADM2582E_2587E.pdf; Shop: https://ru.aliexpress.com/item/Free-shipping-10PCS-1lot-IC-ADM2587EBRWZ-ADM2587E-2587EBRWZ-SOP-20/32722806856.html?spm=a2g0v.search0302.3.9.s5rrmf&ws_ab_test=searchweb0_0,searchweb201602_0_10073_10152_10151_10536_10538_10537_10539_10055_10154_10211_10056_10155_10059_10312_10314_10534_10313_10533_10060_10084_100031_10083_10129_10107_10128_10307_10341_10065_10142_10340_10068_10343_10541_10342_10125_10169_10301_10345_10103_10543_10102_10344,searchweb201603_0,ppcSwitch_0&algo_pvid=65e5a329-1a38-4845-a227-d5df7d082cf8&algo_expid=65e5a329-1a38-4845-a227-d5df7d082cf8-1
footprint SOIC_8N (for operational amplifier)
pins: 1 Output (power), 2 Sense (power), 3 Shutdown, 4 GND, 5 Error, 6 Vo (power), 7 Feedback (power), 8 Input

## M8 A code 3 pin
designator XP?  value M8 A code 3 pin  Value1: {Value1}  Value2: {Value2}  Value3: {Value3}  (hidden comment: *)
PartNumber: 8B003; Manufacturer: Indus-C; New: NO
footprint M8 A Coding 3Pin front mount DIP
pins: 1, 2, 3
text: Цепь; Конт

## M12 A code 5 pin
designator XP?  value M12 A code 5 pin  Value1: {Value1}  Value2: {Value2}  Value3: {Value3}  Value4: {Value4}  Value5: {Value5}  (hidden comment: *)
PartNumber: 12B011; Manufacturer: Indus-C; New: NO
footprint M12 A Coding 5Pin female front mount PG9 DIP
pins: 1, 2, 3, 4, 5
text: Цепь; Конт

## M12 L code 5 pin
designator XP?  value M12 A code 5 pin  Value1: {Value1}  Value2: {Value2}  Value3: {Value3}  Value4: {Value4}  Value5: {Value5}  (hidden comment: *)
PartNumber: 12B011; Manufacturer: Indus-C; New: NO
footprint M12 L Coding 5Pin female front mount PG9 DIP
pins: 1, 2, 3, 4, 5
text: Цепь; Конт

## MAX999
designator DA?
Manufacturer: Maxin Integrated; Notice: Высокоскоростной компаратор; Rate: 2,7...5,5В; Datasheet: https://datasheets.maximintegrated.com/en/ds/MAX961-MAX999.pdf; Shop: https://ru.aliexpress.com/item/Free-shipping-10pcs-lot-MAX999EUK-T-MAX999EUK-MAX999EUK-MAX999E-MAX999-IC-COMP-BEYOND-THE-RAILS-SOT23/32327459016.html?spm=a2g0v.search0104.3.9.NvBKPz&ws_ab_test=searchweb0_0,searchweb201602_2_10152_10065_10151_10344_10068_10345_10342_10343_10340_10341_10543_10541_10084_10083_10307_10301_5640015_10060_10155_10154_10056_10055_10539_10538_5370015_10537_10312_10536_10059_10313_10314_10534_10533_100031_10211_10103_10128_10073_10102_10129_10169_10142_10107_10125,searchweb201603_2,ppcSwitch_5&btsid=31b68e71-95a5-4f7a-86e6-35d0c4d1aa2b&algo_expid=dcb29998-31f2-4313-bc28-512c5678a331-1&algo_pvid=dcb29998-31f2-4313-bc28-512c5678a331; Value: MAX999
footprint SOT23-5 (SOT23-5, max999)
pins: 1 Q, 2 GND, 3 IN+, 4 IN-, 5 Vcc

## MCP6001T-I_OT
designator OP?  value MCP6001T-I_OT  (hidden comment: *)
Операционный усилитель; New: N; PartNumber: *
footprint SOT23-5 (SOT23-5, max999)
pins: 1 VOUT, 2 VSS, 3 VIN+, 4 VIN-, 5 VDD

## MOSFET n-channel
designator VT?
footprint TO 220 DRAIN DOWN
footprint SOT23
pins: 1, 2, 3

## MOSFET n-channel double
designator VT?
Value: {Value}; New: N; PartNumber: *
footprint SOIC_8N (for operational amplifier)
part A pins: 1 3A, 2 1A, 8 2A
part B pins: 3 3B, 4 1, 6 2B

## MR-18-A8
designator SA?  value MR-18-A8  (hidden comment: *)
Галетный переключатель 8 позиций; New: NO; PartNumber: *
footprint MR18A8
pins: 1, 2, 3, 4, 5, 6, 7, 8

## NC7SZ14
designator DD?
Logical Inverter; Manufacturer: Infineon; Notice: Интеллектуальный ключ; New: N; Case: PG-TO263-7-1; PartNumber: *; Value: NC7SZ14
footprint SOT23-5 (SOT23-5, max999)
pins: 1 NC, 2 A, 3 GND, 4 Y, 5 Vcc

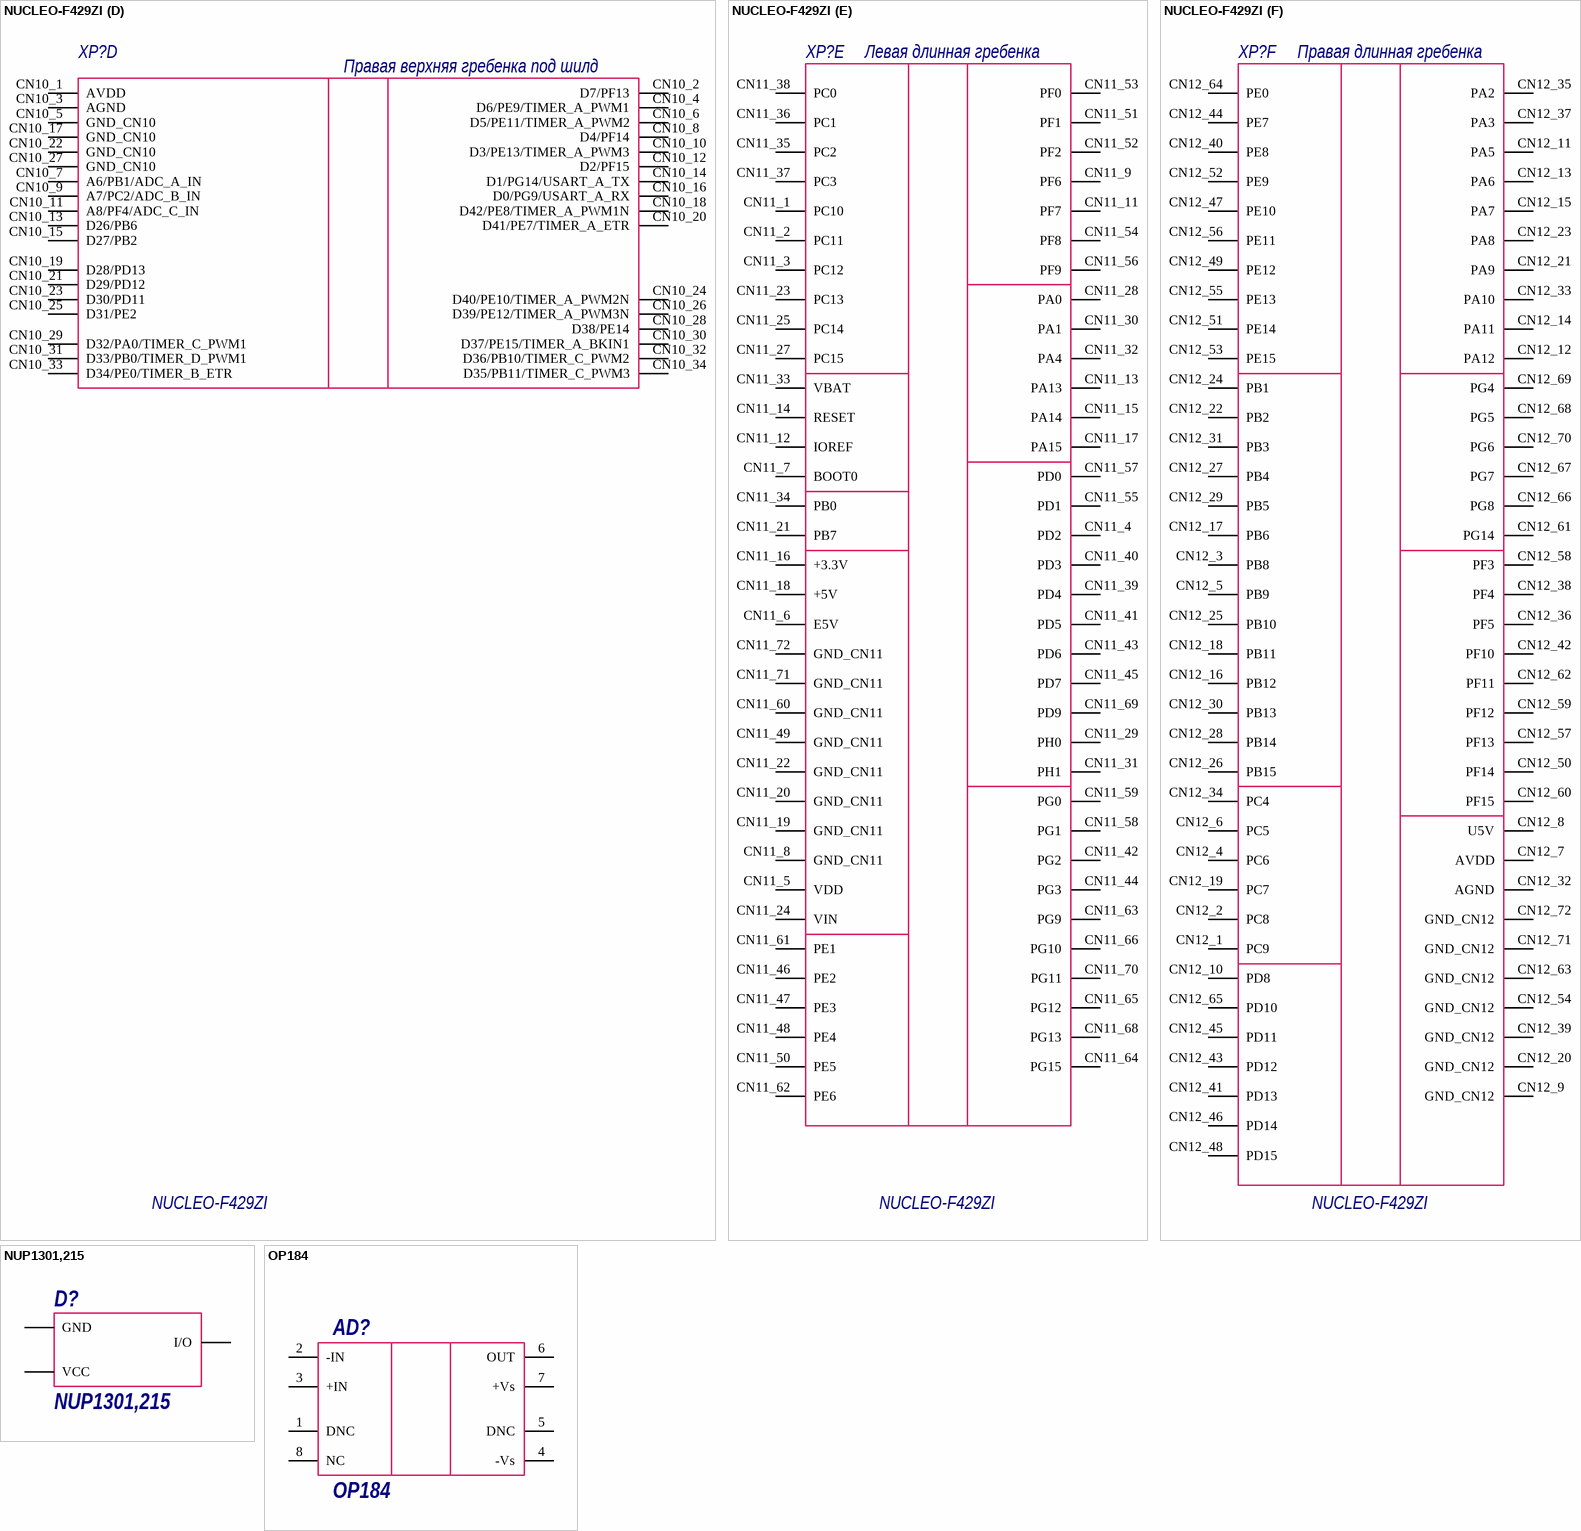
[diagram p5: symbols NUCLEO-F429ZI to OP184]

## NUCLEO-F429ZI
designator XP?
STM32 Nucleo-144 development board with STM32F429ZIT6 MCU, supports Arduino, ST Zio and Morpho; MF: STMicroelectronics; Price: None; MP: NUCLEO-F429ZI; Package: None; Availability: Unavailable; SnapEDA_Link: https://www.snapeda.com/parts/NUCLEO-F429ZI/STMicroelectronics/view-part/?ref=snap; Value: *
footprint *MODULE_NUCLEO-F429ZI_NUCLEO-F429ZI(Primary)
part A pins: CN7_1 D16/PC6/I2S_A_MCK, CN7_2 D15/PB8/I2C_A_SCL, CN7_3 D17/PB15/I2S_A_SD, CN7_4 D14/PB9/I2C_A_SDA, CN7_5 D18/PB13/I2S_A_CK, CN7_6 AVDD, CN7_7 D19/PB12/I2S_A_WS, CN7_8 GND_CN7, CN7_9 D20/PA15/I2S_B_WS, CN7_10 D13/PA5/SPI_A_SCK, CN7_11 D21/PC7/I2S_B_MCK, CN7_12 D12/PA6/SPI_A_MISO, CN7_13 D22/PB5/I2S_B_SD/SPI_B_MOSI, CN7_14 D11/ETH/PA7/SPI_A_MOSI/TIM_E_PWM1, CN7_15 D23/PB3/I2S_B_CK/SPI_B_SCK, CN7_16 D10/PD14/SPI_A_CS/TIM_B_PWM3, CN7_17 D24/PA4/SPI_B_NSS, CN7_18 D9/PD15/TIMER_B_PWM2, CN7_19 D25/PB4/SPI_B_MISO, CN7_20 D8/PF12
part B pins: CN8_2 D43/PC8/SDMMC_D0, CN8_3 IOREF, CN8_4 D44/PC9/SDMMC_D1/I2S_A_CKIN, CN8_5 RESET, CN8_6 D45/PC10/SDMMC_D2, CN8_7 +3.3V, CN8_8 D46/PC11/SDMMC_D3, CN8_9 +5V, CN8_10 D47/PC12/SDMMC_CK, CN8_11 GND_CN8, CN8_12 D48/PD2/SDMMC_CMD, CN8_13 GND_CN8, CN8_14 D49/PG2, CN8_15 VIN, CN8_16 D50/PG3
part C pins: CN9_1 A0/PA3, CN9_2 D51/PD7/USART_B_SCLK, CN9_3 A1/PC0, CN9_4 D52/PD6/USART_B_RX, CN9_5 A2/PC3, CN9_6 D53/PD5/USART_B_TX, CN9_7 A3/PF3, CN9_8 D54/PD4/USART_B_RTS, CN9_9 A4/PF5, CN9_10 D55/PD3/USART_B_CTS, CN9_11 A5/PF10, CN9_12 GND_CN9, CN9_13 D72/NC, CN9_14 D56/PE2/SAI_A_MCLK, CN9_15 D71/PA7, CN9_16 D57/PE4/SAI_A_FS, CN9_17 D70/PF2/I2C_B_SMBA, CN9_18 D58/PE5/SAI_A_SCK, CN9_19 D69/PF1/I2C_B_SCL, CN9_20 D59/PE6/SAI_A_SD, CN9_21 D68/PF0/I2C_B_SDA, CN9_22 D60/PE3/SAI_B_SD, CN9_23 GND_CN9, CN9_24 D61/PF8/SAI_B_SCK, CN9_25 D67/PD0/CAN_RX, CN9_26 D62/PF7/SAI_B_MCLK, CN9_27 D66/PD1/CAN_TX, CN9_28 D63/PF9/SAI_B_FS, CN9_29 D65/PG0, CN9_30 D64/PG1
part D pins: CN10_1 AVDD, CN10_2 D7/PF13, CN10_3 AGND, CN10_4 D6/PE9/TIMER_A_PWM1, CN10_5 GND_CN10, CN10_6 D5/PE11/TIMER_A_PWM2, CN10_7 A6/PB1/ADC_A_IN, CN10_8 D4/PF14, CN10_9 A7/PC2/ADC_B_IN, CN10_10 D3/PE13/TIMER_A_PWM3, CN10_11 A8/PF4/ADC_C_IN, CN10_12 D2/PF15, CN10_13 D26/PB6, CN10_14 D1/PG14/USART_A_TX, CN10_15 D27/PB2, CN10_16 D0/PG9/USART_A_RX, CN10_17 GND_CN10, CN10_18 D42/PE8/TIMER_A_PWM1N, CN10_19 D28/PD13, CN10_20 D41/PE7/TIMER_A_ETR, CN10_21 D29/PD12, CN10_22 GND_CN10, CN10_23 D30/PD11, CN10_24 D40/PE10/TIMER_A_PWM2N, CN10_25 D31/PE2, CN10_26 D39/PE12/TIMER_A_PWM3N, CN10_27 GND_CN10, CN10_28 D38/PE14, CN10_29 D32/PA0/TIMER_C_PWM1, CN10_30 D37/PE15/TIMER_A_BKIN1, CN10_31 D33/PB0/TIMER_D_PWM1, CN10_32 D36/PB10/TIMER_C_PWM2, CN10_33 D34/PE0/TIMER_B_ETR, CN10_34 D35/PB11/TIMER_C_PWM3
part E pins: CN11_1 PC10, CN11_2 PC11, CN11_3 PC12, CN11_4 PD2, CN11_5 VDD, CN11_6 E5V, CN11_7 BOOT0, CN11_8 GND_CN11, CN11_9 PF6, CN11_11 PF7, CN11_12 IOREF, CN11_13 PA13, CN11_14 RESET, CN11_15 PA14, CN11_16 +3.3V, CN11_17 PA15, CN11_18 +5V, CN11_19 GND_CN11, CN11_20 GND_CN11, CN11_21 PB7, CN11_22 GND_CN11, CN11_23 PC13, CN11_24 VIN, CN11_25 PC14, CN11_27 PC15, CN11_28 PA0, CN11_29 PH0, CN11_30 PA1, CN11_31 PH1, CN11_32 PA4, CN11_33 VBAT, CN11_34 PB0, CN11_35 PC2, CN11_36 PC1, CN11_37 PC3, CN11_38 PC0, CN11_39 PD4, CN11_40 PD3, CN11_41 PD5, CN11_42 PG2, CN11_43 PD6, CN11_44 PG3, CN11_45 PD7, CN11_46 PE2, CN11_47 PE3, CN11_48 PE4, CN11_49 GND_CN11, CN11_50 PE5, CN11_51 PF1, CN11_52 PF2, CN11_53 PF0, CN11_54 PF8, CN11_55 PD1, CN11_56 PF9, CN11_57 PD0, CN11_58 PG1, CN11_59 PG0, CN11_60 GND_CN11, CN11_61 PE1, CN11_62 PE6, CN11_63 PG9, CN11_64 PG15, CN11_65 PG12, CN11_66 PG10, CN11_68 PG13, CN11_69 PD9, CN11_70 PG11, CN11_71 GND_CN11, CN11_72 GND_CN11
part F pins: CN12_1 PC9, CN12_2 PC8, CN12_3 PB8, CN12_4 PC6, CN12_5 PB9, CN12_6 PC5, CN12_7 AVDD, CN12_8 U5V, CN12_9 GND_CN12, CN12_10 PD8, CN12_11 PA5, CN12_12 PA12, CN12_13 PA6, CN12_14 PA11, CN12_15 PA7, CN12_16 PB12, CN12_17 PB6, CN12_18 PB11, CN12_19 PC7, CN12_20 GND_CN12, CN12_21 PA9, CN12_22 PB2, CN12_23 PA8, CN12_24 PB1, CN12_25 PB10, CN12_26 PB15, CN12_27 PB4, CN12_28 PB14, CN12_29 PB5, CN12_30 PB13, CN12_31 PB3, CN12_32 AGND, CN12_33 PA10, CN12_34 PC4, CN12_35 PA2, CN12_36 PF5, CN12_37 PA3, CN12_38 PF4, CN12_39 GND_CN12, CN12_40 PE8, CN12_41 PD13, CN12_42 PF10, CN12_43 PD12, CN12_44 PE7, CN12_45 PD11, CN12_46 PD14, CN12_47 PE10, CN12_48 PD15, CN12_49 PE12, CN12_50 PF14, CN12_51 PE14, CN12_52 PE9, CN12_53 PE15, CN12_54 GND_CN12, CN12_55 PE13, CN12_56 PE11, CN12_57 PF13, CN12_58 PF3, CN12_59 PF12, CN12_60 PF15, CN12_61 PG14, CN12_62 PF11, CN12_63 GND_CN12, CN12_64 PE0, CN12_65 PD10, CN12_66 PG8, CN12_67 PG7, CN12_68 PG5, CN12_69 PG4, CN12_70 PG6, CN12_71 GND_CN12, CN12_72 GND_CN12
part A text: Правая верхняя гребенка под шилд
part B text: Левая верхняя гребенка под шилд
part C text: Левая нижняя гребенка под шилд
part D text: Правая верхняя гребенка под шилд
part E text: Левая длинная гребенка
part F text: Правая длинная гребенка

## NUP1301,215
designator D?
PartNumber: {value}; New: N; Value: NUP1301,215
footprint SOT23-3L
pins: 1 GND, 2 VCC, 3 I/O

## OP184
designator AD?
Manufacturer: Analog Devices; Rate: 3..36В; Notice: Операционный усилитель одноканальный; Datasheet: http://www.analog.com/media/en/technical-documentation/data-sheets/OP184_284_484.pdf; Shop: https://www.chipdip.ru/product/op184fs; Case: корпус; Value: OP184
footprint SOIC_8N (for operational amplifier)
pins: 1 DNC, 2 -IN, 3 +IN, 4 -Vs, 5 DNC, 6 OUT, 7 +Vs, 8 NC

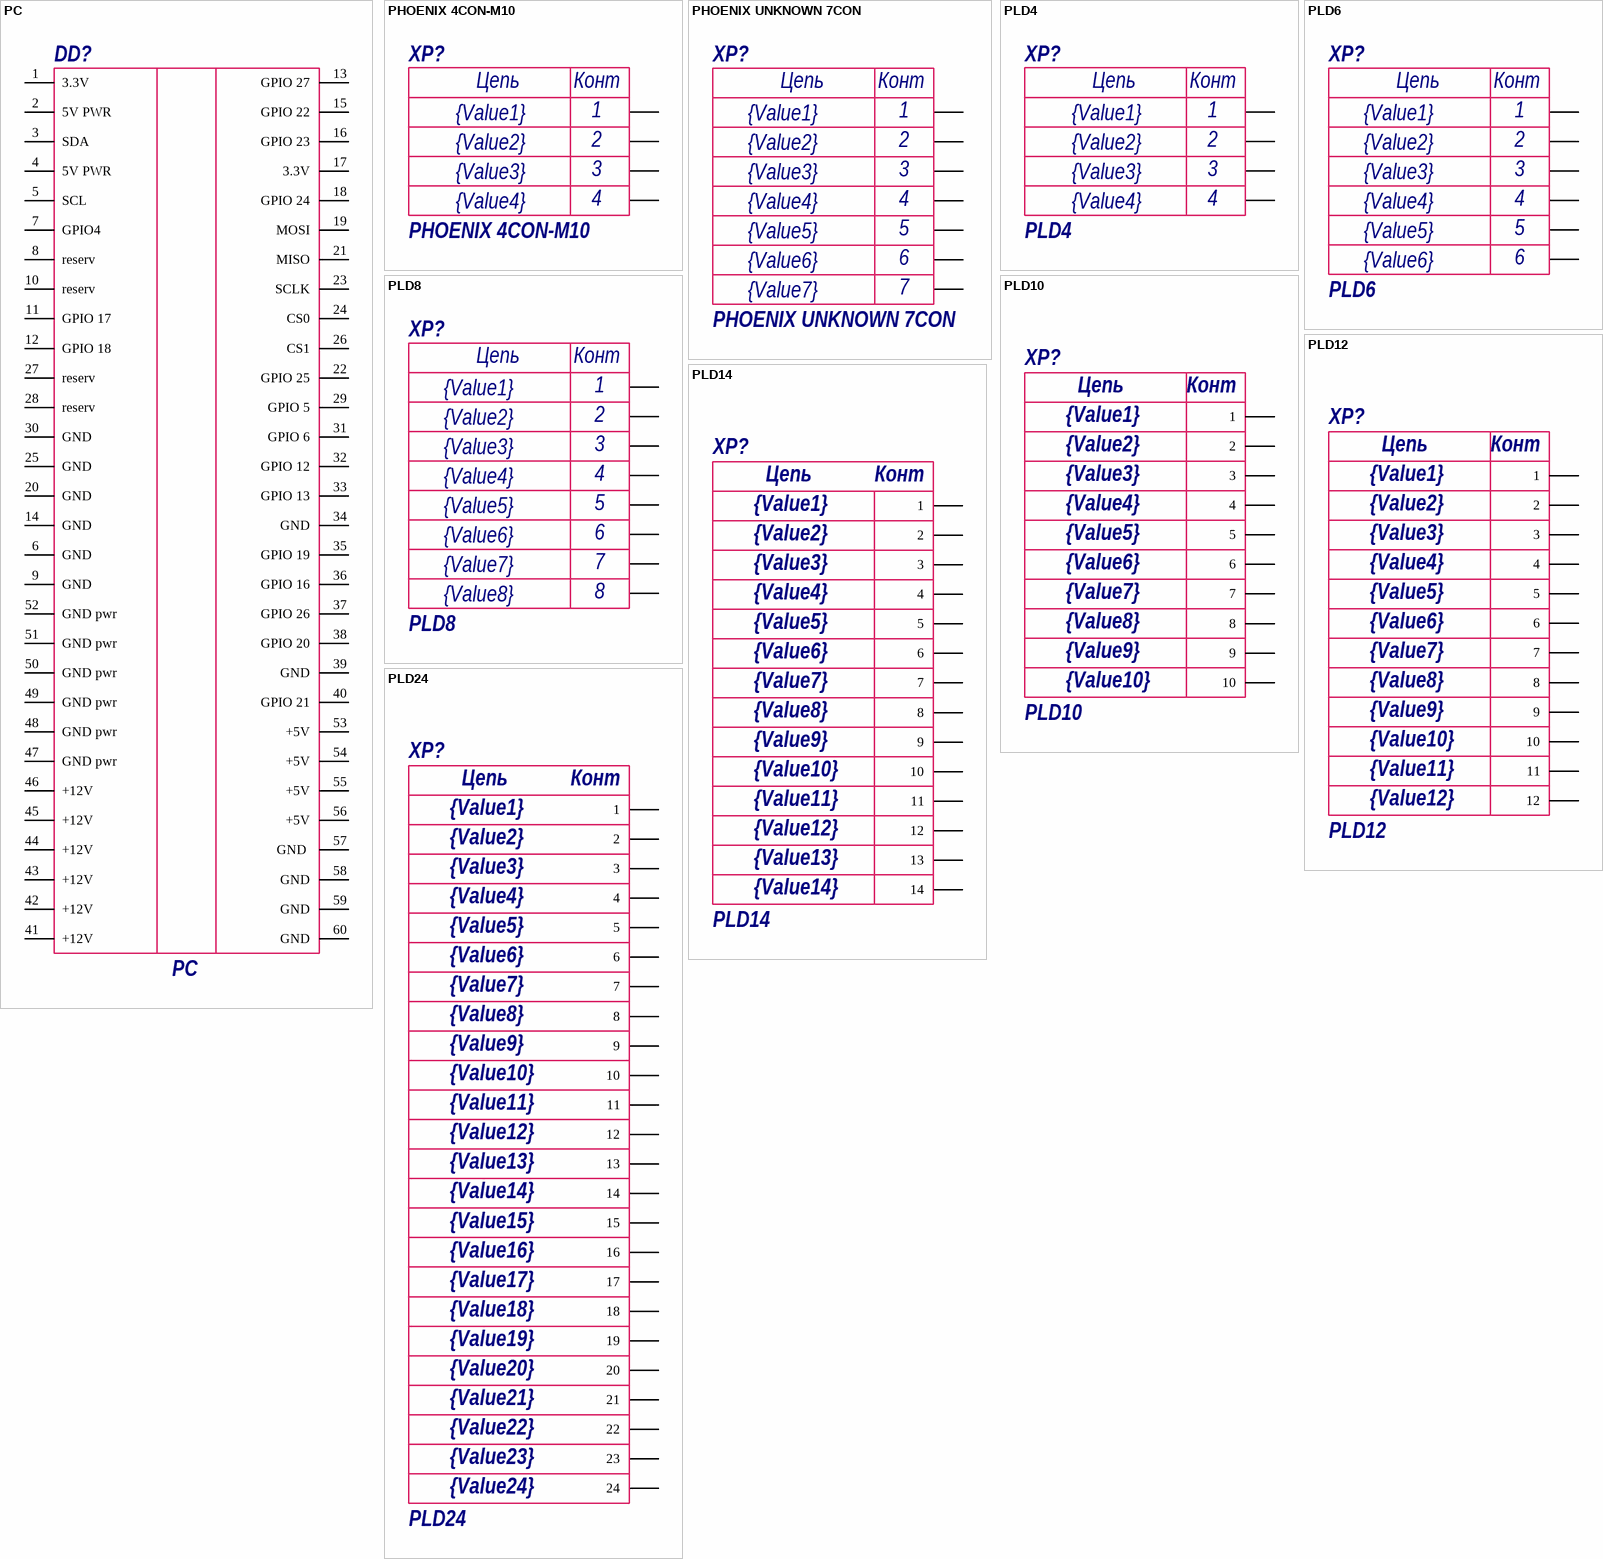
[diagram p6: symbols PC to PLD24]

## PC
designator DD?  value PC  (hidden comment: *)
footprint PC
pins: 1 3.3V, 2 5V PWR, 3 SDA, 4 5V PWR, 5 SCL, 6 GND, 7 GPIO4, 8 reserv, 9 GND, 10 reserv, 11 GPIO 17, 12 GPIO 18, 13 GPIO 27, 14 GND, 15 GPIO 22, 16 GPIO 23, 17 3.3V, 18 GPIO 24, 19 MOSI, 20 GND, 21 MISO, 22 GPIO 25, 23 SCLK, 24 CS0, 25 GND, 26 CS1, 27 reserv, 28 reserv, 29 GPIO 5, 30 GND, 31 GPIO 6, 32 GPIO 12, 33 GPIO 13, 34 GND, 35 GPIO 19, 36 GPIO 16, 37 GPIO 26, 38 GPIO 20, 39 GND, 40 GPIO 21, 41 +12V, 42 +12V, 43 +12V, 44 +12V, 45 +12V, 46 +12V, 47 GND pwr, 48 GND pwr, 49 GND pwr, 50 GND pwr, 51 GND pwr, 52 GND pwr, 53 +5V, 54 +5V, 55 +5V, 56 +5V, 57 GND , 58 GND, 59 GND, 60 GND

## PHOENIX 4CON-M10
designator XP?  value PHOENIX 4CON-M10  Value3: {Value3}  Value2: {Value2}  Value4: {Value4}  Value1: {Value1}  (hidden comment: *)
PartNumber: SACC-DSI-M8FS-4CON-M10-L180 SH - 1456129; New: NO
footprint PHOENIX SACC-DSI-M8FS-4CON-M10-L180 SH
pins: 1, 2, 3, 4
text: Цепь; Конт

## PHOENIX UNKNOWN 7CON
designator XP?  value PHOENIX UNKNOWN 7CON  Value1: {Value1}  Value2: {Value2}  Value3: {Value3}  Value4: {Value4}  Value5: {Value5}  Value6: {Value6}  Value7: {Value7}  (hidden comment: *)
Manufacturer: Connfly; Notice: Вилка штырьевая 8 пинов, шаг 2,54мм; Rate: 500В AC 1min; Datasheet: https://lib.chipdip.ru/227/DOC000227157.pdf; Shop: https://www.chipdip.ru/product/pld-8-ds1021-2x4
footprint PLD8
pins: 1, 2, 3, 4, 5, 6, 7
text: Цепь; Конт

## PLD4
designator XP?  value PLD4  Value3: {Value3}  Value2: {Value2}  Value4: {Value4}  Value1: {Value1}  (hidden comment: *)
Manufacturer: Connfly; Notice: Вилка штырьевая 4 пина, шаг 2,54мм; Rate: 500В AC 1min; New: N; Datasheet: https://lib.chipdip.ru/227/DOC000227157.pdf; Shop: https://www.chipdip.ru/product/pls-4; PartNumber: *
footprint PLD4
pins: 1, 2, 3, 4
text: Цепь; Конт

## PLD6
designator XP?  value PLD6  Value1: {Value1}  Value2: {Value2}  Value3: {Value3}  Value4: {Value4}  Value5: {Value5}  Value6: {Value6}  (hidden comment: *)
Manufacturer: Connfly; Notice: Вилка штырьевая 6 пинов, шаг 2,54мм; Rate: 500В AC 1min; New: N; Datasheet: https://lib.chipdip.ru/227/DOC000227157.pdf; Shop: https://www.chipdip.ru/product/pld-6; PartNumber: *
footprint PLD6
pins: 1, 2, 3, 4, 5, 6
text: Цепь; Конт

## PLD8
designator XP?  value PLD8  Value1: {Value1}  Value2: {Value2}  Value3: {Value3}  Value4: {Value4}  Value5: {Value5}  Value6: {Value6}  Value7: {Value7}  Value8: {Value8}  (hidden comment: *)
Manufacturer: Connfly; Notice: Вилка штырьевая 8 пинов, шаг 2,54мм; Rate: 500В AC 1min; New: N; Datasheet: https://lib.chipdip.ru/227/DOC000227157.pdf; Shop: https://www.chipdip.ru/product/pld-8-ds1021-2x4; PartNumber: *
footprint PLD8
pins: 1, 2, 3, 4, 5, 6, 7, 8
text: Цепь; Конт

## PLD10
designator XP?  value PLD10  Value10: {Value10}  Value1: {Value1}  Value2: {Value2}  Value3: {Value3}  Value4: {Value4}  Value5: {Value5}  Value6: {Value6}  Value7: {Value7}  Value8: {Value8}  Value9: {Value9}  (hidden comment: *)
Manufacturer: Connfly; Notice: Вилка штырьевая 10 пинов, шаг 2,54мм; Rate: 500В AC 1min; New: N; Datasheet: https://lib.chipdip.ru/227/DOC000227157.pdf; Shop: https://www.chipdip.ru/product/pld-10; PartNumber: *
footprint PLD10
pins: 1, 2, 3, 4, 5, 6, 7, 8, 9, 10
text: Цепь; Конт

## PLD12
designator XP?  value PLD12  Value10: {Value10}  Value11: {Value11}  Value12: {Value12}  Value1: {Value1}  Value2: {Value2}  Value3: {Value3}  Value4: {Value4}  Value5: {Value5}  Value6: {Value6}  Value7: {Value7}  Value8: {Value8}  Value9: {Value9}  (hidden comment: *)
Manufacturer: Connfly; Notice: Вилка штырьевая 12 пинов, шаг 2,54мм; Rate: 500В AC 1min; New: N; Datasheet: https://lib.chipdip.ru/227/DOC000227157.pdf; Shop: https://www.chipdip.ru/product/pld-12; PartNumber: *
footprint PLD12
pins: 1, 2, 3, 4, 5, 6, 7, 8, 9, 10, 11, 12
text: Цепь; Конт

## PLD14
designator XP?  value PLD14  Value10: {Value10}  Value11: {Value11}  Value12: {Value12}  Value13: {Value13}  Value14: {Value14}  Value1: {Value1}  Value2: {Value2}  Value3: {Value3}  Value4: {Value4}  Value5: {Value5}  Value6: {Value6}  Value7: {Value7}  Value8: {Value8}  Value9: {Value9}  (hidden comment: *)
Manufacturer: Connfly; Notice: Вилка штырьевая 24 пина, шаг 2,54мм; Rate: 500В AC 1min; New: N; Datasheet: https://lib.chipdip.ru/227/DOC000227157.pdf; Shop: https://www.chipdip.ru/product/pld-24; PartNumber: *
footprint PLD24
pins: 1, 2, 3, 4, 5, 6, 7, 8, 9, 10, 11, 12, 13, 14
text: Цепь; Конт

## PLD24
designator XP?  value PLD24  Value10: {Value10}  Value11: {Value11}  Value12: {Value12}  Value13: {Value13}  Value14: {Value14}  Value15: {Value15}  Value16: {Value16}  Value17: {Value17}  Value18: {Value18}  Value1: {Value1}  Value2: {Value2}  Value3: {Value3}  Value4: {Value4}  Value5: {Value5}  Value6: {Value6}  Value7: {Value7}  Value8: {Value8}  Value9: {Value9}  Value19: {Value19}  Value20: {Value20}  Value21: {Value21}  Value22: {Value22}  Value23: {Value23}  Value24: {Value24}  (hidden comment: *)
Manufacturer: Connfly; Notice: Вилка штырьевая 24 пина, шаг 2,54мм; Rate: 500В AC 1min; New: N; Datasheet: https://lib.chipdip.ru/227/DOC000227157.pdf; Shop: https://www.chipdip.ru/product/pld-24; PartNumber: *
footprint PLD24
pins: 1, 2, 3, 4, 5, 6, 7, 8, 9, 10, 11, 12, 13, 14, 15, 16, 17, 18, 19, 20, 21, 22, 23, 24
text: Цепь; Конт

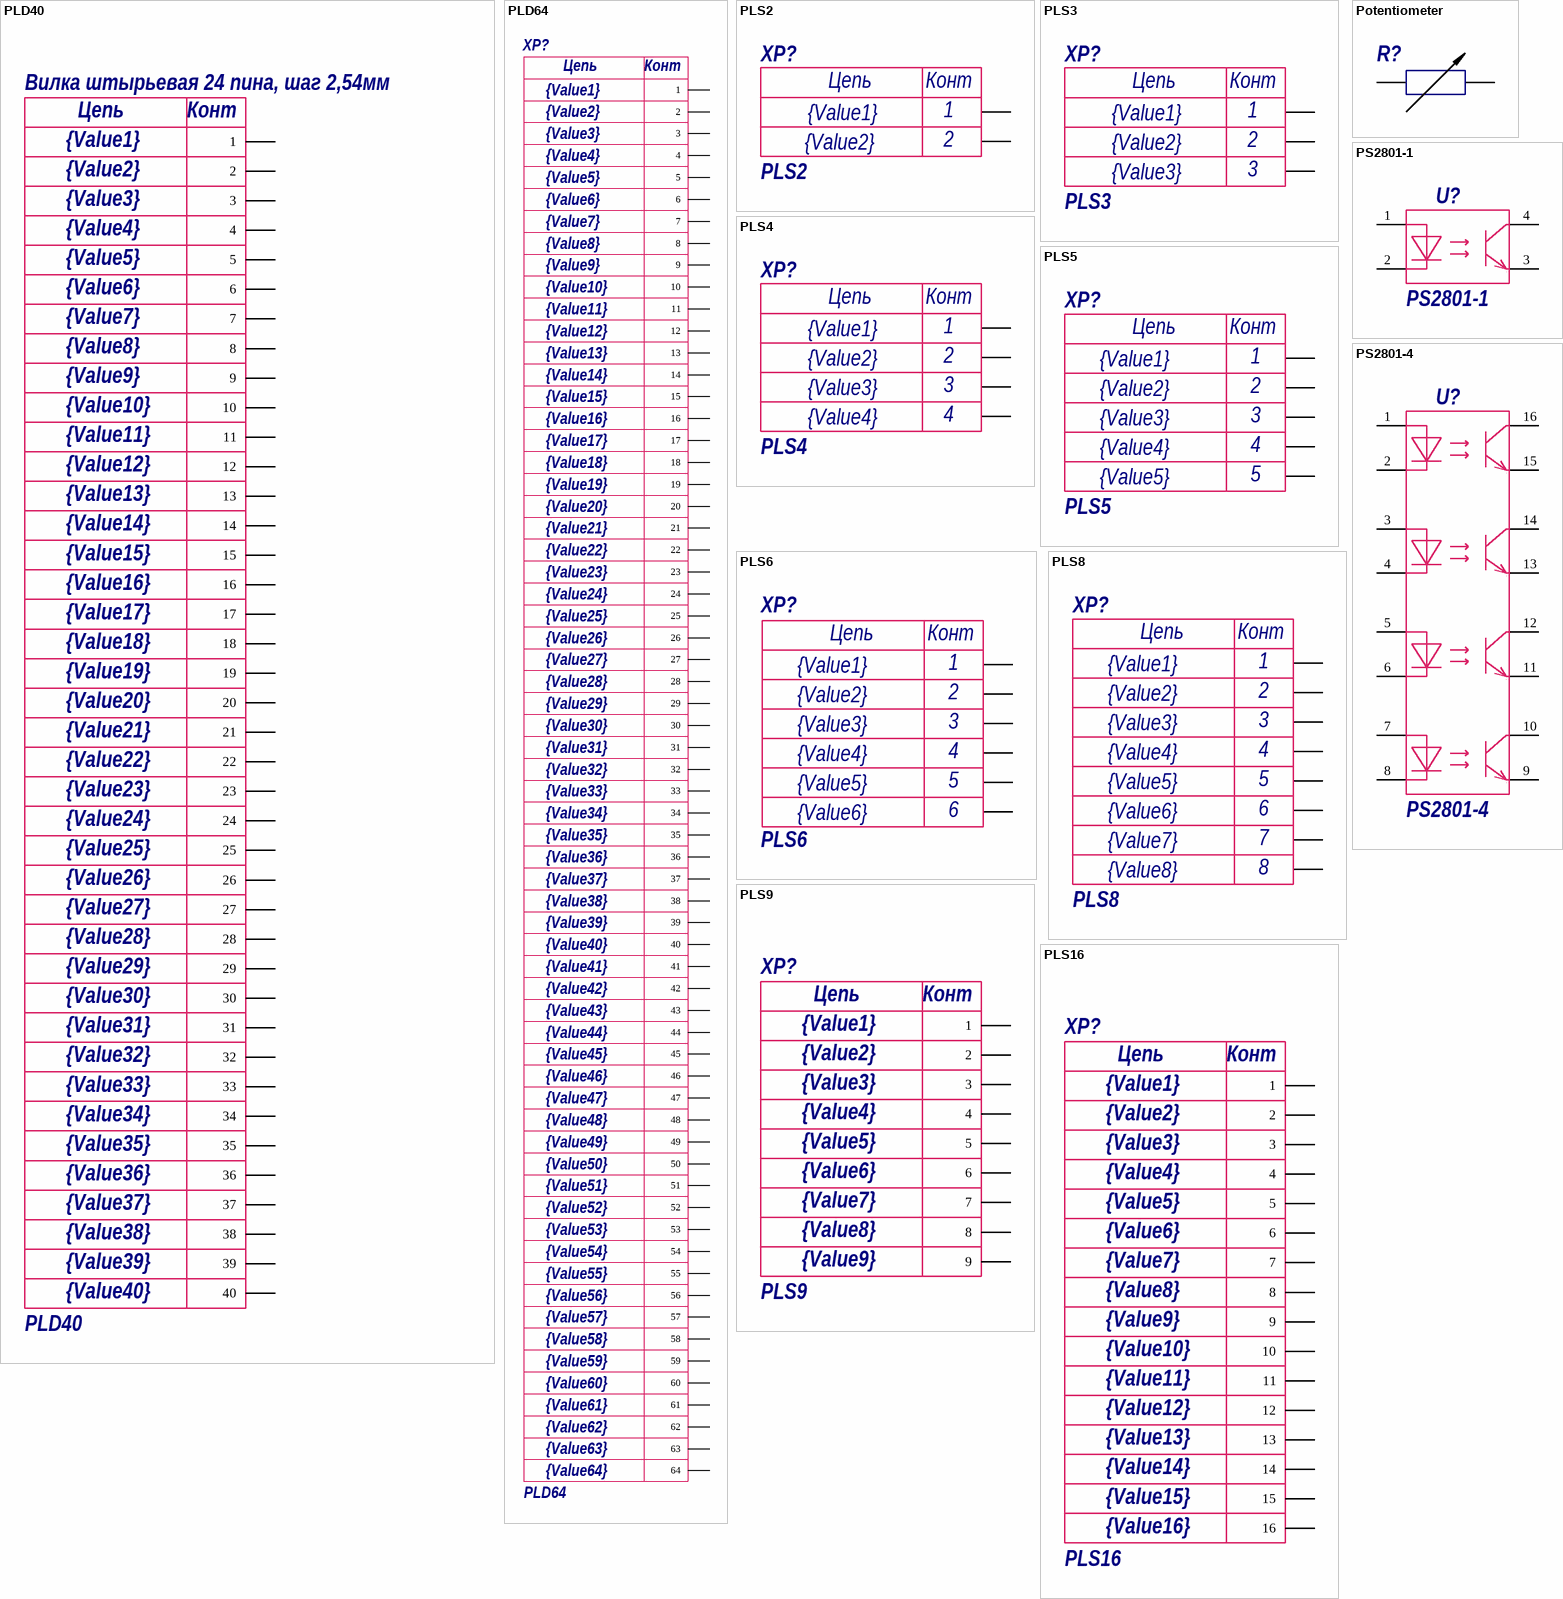
[diagram p7: symbols PLD40 to PS2801-4]

## PLD40
designator Вилка штырьевая 24 пина, шаг 2,54мм  value PLD40  Value10: {Value10}  Value11: {Value11}  Value12: {Value12}  Value13: {Value13}  Value14: {Value14}  Value15: {Value15}  Value16: {Value16}  Value17: {Value17}  Value18: {Value18}  Value1: {Value1}  Value2: {Value2}  Value3: {Value3}  Value4: {Value4}  Value5: {Value5}  Value6: {Value6}  Value7: {Value7}  Value8: {Value8}  Value9: {Value9}  Value19: {Value19}  Value20: {Value20}  Value21: {Value21}  Value22: {Value22}  Value23: {Value23}  Value24: {Value24}  Value25: {Value25}  Value26: {Value26}  Value27: {Value27}  Value28: {Value28}  Value29: {Value29}  Value30: {Value30}  Value31: {Value31}  Value32: {Value32}  Value33: {Value33}  Value34: {Value34}  Value35: {Value35}  Value36: {Value36}  Value37: {Value37}  Value38: {Value38}  Value39: {Value39}  Value40: {Value40}  (hidden comment: *)
Manufacturer: Connfly; Notice: Вилка штырьевая 40 пинов, шаг 2,54мм; Rate: 500В AC 1min; New: N; Datasheet: https://lib.chipdip.ru/463/DOC002463525.pdf; Shop: https://www.chipdip.ru/product/pld-40; PartNumber: *
footprint PLD40
pins: 1, 2, 3, 4, 5, 6, 7, 8, 9, 10, 11, 12, 13, 14, 15, 16, 17, 18, 19, 20, 21, 22, 23, 24, 25, 26, 27, 28, 29, 30, 31, 32, 33, 34, 35, 36, 37, 38, 39, 40
text: Цепь; Конт

## PLD64
designator XP?  value PLD64  Value64: {Value64}  Value63: {Value63}  Value62: {Value62}  Value61: {Value61}  Value60: {Value60}  Value59: {Value59}  Value58: {Value58}  Value57: {Value57}  Value56: {Value56}  Value55: {Value55}  Value54: {Value54}  Value52: {Value52}  Value53: {Value53}  Value51: {Value51}  Value50: {Value50}  Value48: {Value48}  Value49: {Value49}  Value47: {Value47}  Value46: {Value46}  Value45: {Value45}  Value44: {Value44}  Value43: {Value43}  Value42: {Value42}  Value41: {Value41}  Value10: {Value10}  Value11: {Value11}  Value12: {Value12}  Value13: {Value13}  Value14: {Value14}  Value15: {Value15}  Value16: {Value16}  Value17: {Value17}  Value18: {Value18}  Value1: {Value1}  Value2: {Value2}  Value3: {Value3}  Value4: {Value4}  Value5: {Value5}  Value6: {Value6}  Value7: {Value7}  Value8: {Value8}  Value9: {Value9}  Value19: {Value19}  Value20: {Value20}  Value21: {Value21}  Value22: {Value22}  Value23: {Value23}  Value24: {Value24}  Value25: {Value25}  Value26: {Value26}  Value27: {Value27}  Value28: {Value28}  Value29: {Value29}  Value30: {Value30}  Value31: {Value31}  Value32: {Value32}  Value33: {Value33}  Value34: {Value34}  Value35: {Value35}  Value36: {Value36}  Value37: {Value37}  Value38: {Value38}  Value39: {Value39}  Value40: {Value40}  (hidden comment: *)
Manufacturer: Connfly; Notice: Вилка штырьевая 40 пинов, шаг 2,54мм; Rate: 500В AC 1min; New: N; Datasheet: https://lib.chipdip.ru/463/DOC002463525.pdf; Shop: https://www.chipdip.ru/product/pld-40; PartNumber: *
footprint PLD40
pins: 1, 2, 3, 4, 5, 6, 7, 8, 9, 10, 11, 12, 13, 14, 15, 16, 17, 18, 19, 20, 21, 22, 23, 24, 25, 26, 27, 28, 29, 30, 31, 32, 33, 34, 35, 36, 37, 38, 39, 40, 41, 42, 43, 44, 45, 46, 47, 48, 49, 50, 51, 52, 53, 54, 55, 56, 57, 58, 59, 60, 61, 62, 63, 64
text: Цепь; Конт

## PLS2
designator XP?  value PLS2  Value1: {Value1}  Value2: {Value2}  (hidden comment: *)
Manufacturer: Connfly; PartNumber: {value}; Notice: Вилка штырьевая 2 пина, шаг 2,54мм; Rate: 500В AC 1min; New: N; Datasheet: https://lib.chipdip.ru/227/DOC000227157.pdf; Shop: https://www.chipdip.ru/product/pls-2
footprint PLS2
pins: 1, 2
text: Цепь; Конт

## PLS3
designator XP?  value PLS3  Value3: {Value3}  Value2: {Value2}  Value1: {Value1}  (hidden comment: *)
Manufacturer: Connfly; PartNumber: {value}; Notice: Вилка штырьевая 3 пина, шаг 2,54мм; Rate: 500В AC 1min; New: N; Datasheet: https://lib.chipdip.ru/227/DOC000227157.pdf; Shop: https://www.chipdip.ru/product/pls-3
footprint PLS3
pins: 1, 2, 3
text: Цепь; Конт

## PLS4
designator XP?  value PLS4  Value3: {Value3}  Value2: {Value2}  Value4: {Value4}  Value1: {Value1}  (hidden comment: *)
Manufacturer: Connfly; PartNumber: {value}; Notice: Вилка штырьевая 4 пина, шаг 2,54мм; Rate: 500В AC 1min; New: N; Datasheet: https://lib.chipdip.ru/227/DOC000227157.pdf; Shop: https://www.chipdip.ru/product/pls-4
footprint PLS4
pins: 1, 2, 3, 4
text: Цепь; Конт

## PLS5
designator XP?  value PLS5  Value1: {Value1}  Value2: {Value2}  Value3: {Value3}  Value4: {Value4}  Value5: {Value5}  (hidden comment: *)
Manufacturer: Connfly; PartNumber: {value}; Notice: Вилка штырьевая 5 пинов, шаг 2,54мм; Rate: 500В AC 1min; New: N; Datasheet: https://lib.chipdip.ru/227/DOC000227157.pdf; Shop: https://www.chipdip.ru/product/pls-5
footprint PLS5
pins: 1, 2, 3, 4, 5
text: Цепь; Конт

## PLS6
designator XP?  value PLS6  Value1: {Value1}  Value2: {Value2}  Value3: {Value3}  Value4: {Value4}  Value5: {Value5}  Value6: {Value6}  (hidden comment: *)
Manufacturer: Connfly; PartNumber: {value}; Notice: Вилка штырьевая 6 пинов, шаг 2,54мм; Rate: 500В AC 1min; New: N; Datasheet: https://lib.chipdip.ru/227/DOC000227157.pdf; Shop: https://www.chipdip.ru/product/pls-6
footprint PLS6
pins: 1, 2, 3, 4, 5, 6
text: Цепь; Конт

## PLS8
designator XP?  value PLS8  Value1: {Value1}  Value2: {Value2}  Value3: {Value3}  Value4: {Value4}  Value5: {Value5}  Value6: {Value6}  Value7: {Value7}  Value8: {Value8}  (hidden comment: *)
Manufacturer: Connfly; PartNumber: {value}; Notice: Вилка штырьевая 8 пинов, шаг 2,54мм; Rate: 500В AC 1min; New: N; Datasheet: https://lib.chipdip.ru/227/DOC000227157.pdf; Shop: https://www.chipdip.ru/product/pls-8
footprint PLS8
pins: 1, 2, 3, 4, 5, 6, 7, 8
text: Цепь; Конт

## PLS9
designator XP?  value PLS9  Value1: {Value1}  Value2: {Value2}  Value3: {Value3}  Value4: {Value4}  Value5: {Value5}  Value6: {Value6}  Value7: {Value7}  Value8: {Value8}  Value9: {Value9}  (hidden comment: *)
Manufacturer: Connfly; PartNumber: {value}; Notice: Вилка штырьевая 16 пинов, шаг 2,54мм; Rate: 500В AC 1min; New: N; Datasheet: https://lib.chipdip.ru/227/DOC000227157.pdf; Shop: https://www.chipdip.ru/product/pls-16
footprint PLS9
pins: 1, 2, 3, 4, 5, 6, 7, 8, 9
text: Цепь; Конт

## PLS16
designator XP?  value PLS16  Value10: {Value10}  Value11: {Value11}  Value12: {Value12}  Value13: {Value13}  Value14: {Value14}  Value15: {Value15}  Value16: {Value16}  Value1: {Value1}  Value2: {Value2}  Value3: {Value3}  Value4: {Value4}  Value5: {Value5}  Value6: {Value6}  Value7: {Value7}  Value8: {Value8}  Value9: {Value9}  (hidden comment: *)
Manufacturer: Connfly; PartNumber: {value}; Notice: Вилка штырьевая 16 пинов, шаг 2,54мм; Rate: 500В AC 1min; New: N; Datasheet: https://lib.chipdip.ru/227/DOC000227157.pdf; Shop: https://www.chipdip.ru/product/pls-16
footprint PLS16
pins: 1, 2, 3, 4, 5, 6, 7, 8, 9, 10, 11, 12, 13, 14, 15, 16
text: Цепь; Конт

## Potentiometer
designator R?  (value not drawn)
footprint POT4MM
pins: 1, 2, 3

## PS2801-1
designator U?, comment value PS2801-1  (hidden comment: PS2801-4)
Manufacturer: Cosmo Electronics; Notice: Оптопара с фототранзистором; Rate: -5...80В Коллектор-эмиттер, 6В - обратное напряжение диода; New: N; Datasheet: http://www.cosmo-ic.com/object/products/KPC357NT.pdf; Shop: https://www.chipdip.ru/product/kpc357nt; PartNumber: *
footprint SSOP-4 (SOP, 4-Leads, Body 2,70x4,40mm, Pitch 1,27mm, IPC Medium Density)
pins: 1, 2, 3, 4

## PS2801-4
designator U?
Manufacturer: Cosmo Electronics; Notice: Оптопара с фототранзистором; Rate: -5...80В Коллектор-эмиттер, 6В - обратное напряжение диода; New: N; Datasheet: http://www.cosmo-ic.com/object/products/KPC357NT.pdf; Shop: https://www.chipdip.ru/product/kpc357nt; PartNumber: *; Value: PS2801-4
footprint SSOP16 (For PS2801-4)
pins: 1, 2, 3, 4, 5, 6, 7, 8, 9, 10, 11, 12, 13, 14, 15, 16

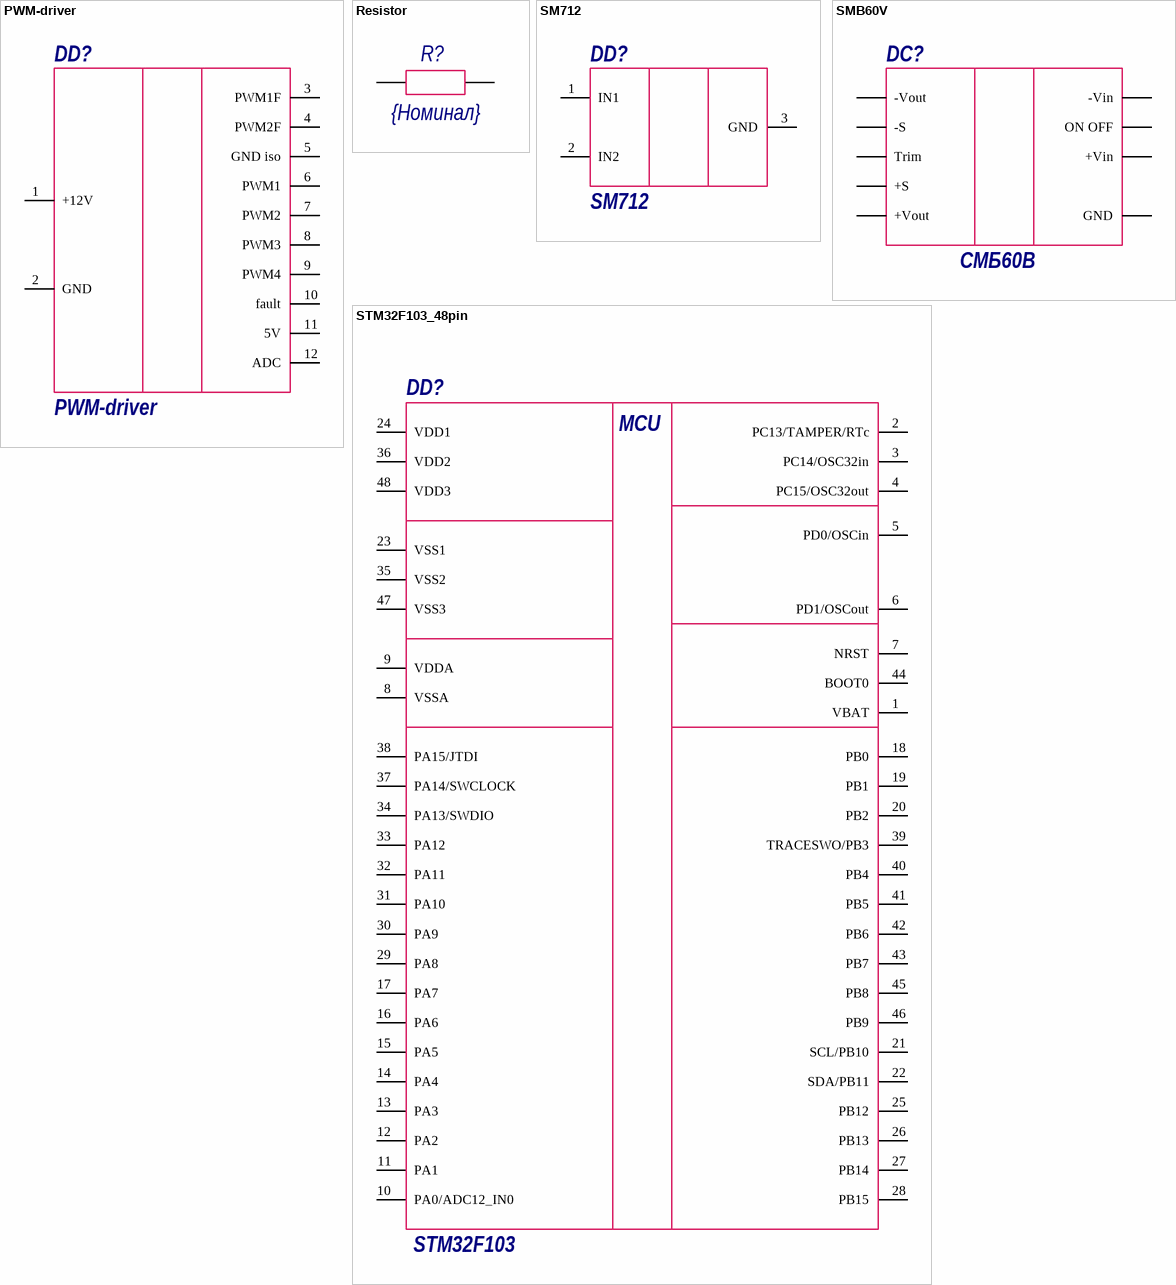
[diagram p8: symbols PWM-driver to STM32F103_48pin]

## PWM-driver
designator DD?  value PWM-driver  (hidden comment: *)
pins: 1 +12V, 2 GND, 3 PWM1F, 4 PWM2F, 5 GND iso, 6 PWM1, 7 PWM2, 8 PWM3, 9 PWM4, 10 fault, 11 5V, 12 ADC

## Resistor
designator R?  value {Номинал}
footprint 0805R
footprint 0603R (Chip Resistor, 2-Leads, Body 1.60x0.85mm, IPC Medium Density)
footprint 1206R (Chip Resistor, 2-Leads, Body 3,10x1,60mm, IPC Medium Density)
pins: 1, 2

## SM712
designator DD?  value SM712  (hidden comment: *)
Manufactore: SEMTECH; Notice: Защита RS-485; Rate: 12В; Datasheet: http://www.semtech.com/images/datasheet/sm712.pdf; Shop: https://www.chipdip.ru/product/sm712.tct; Case: SOT23
footprint SOT23
pins: 1 IN1, 2 IN2, 3 GND

## SMB60V
designator DC?  value СМБ60В  (hidden comment: SMB60V)
СМБ60В; Manufacturer: Ирбис; Notice: DC-DC преобразователь 60 Вт, выходное напряжение - 12В; Rate: 18...72В; Datasheet: http://newet.ru/upload/iblock/da3/da32c35c0007bb917bca288ed4fe9d4e.pdf; Shop: http://newet.ru/catalog/s_vykhodnym_napryazheniem_12_v/konvertor_smb60v/
footprint SMB60V
pins: +S, +Vin, +Vout, -S, -Vin, -Vout, GND, ON OFF, Trim

## STM32F103_48pin
designator DD?, comment Value1: MCU  (hidden comment: STM32F103)
Manufacturer: ST Microelectronics; PartNumber: {value}; Rate: -0,3...4,0В; Shop: магазин с самой дешевой ценой; Notice: 48 пиновая версия STM32F103; New: N; Datasheet: http://www.st.com/content/ccc/resource/technical/document/datasheet/33/d4/6f/1d/df/0b/4c/6d/CD00161566.pdf/files/CD00161566.pdf/jcr:content/translations/en.CD00161566.pdf; Case: корпус; ComponentLink1Description: New link; ComponentLink1URL: *; Value: STM32F103
footprint LQFP48 (TSQFP, 48-Leads, Body 7,00x7,00mm, Pitch 0,50mm, IPC Medium Density)
pins: 1 VBAT, 2 PC13/TAMPER/RTc, 3 PC14/OSC32in, 4 PC15/OSC32out, 5 PD0/OSCin, 6 PD1/OSCout, 7 NRST, 8 VSSA, 9 VDDA, 10 PA0/ADC12_IN0, 11 PA1, 12 PA2, 13 PA3, 14 PA4, 15 PA5, 16 PA6, 17 PA7, 18 PB0, 19 PB1, 20 PB2, 21 SCL/PB10, 22 SDA/PB11, 23 VSS1, 24 VDD1, 25 PB12, 26 PB13, 27 PB14, 28 PB15, 29 PA8, 30 PA9, 31 PA10, 32 PA11, 33 PA12, 34 PA13/SWDIO, 35 VSS2, 36 VDD2, 37 PA14/SWCLOCK, 38 PA15/JTDI, 39 TRACESWO/PB3, 40 PB4, 41 PB5, 42 PB6, 43 PB7, 44 BOOT0, 45 PB8, 46 PB9, 47 VSS3, 48 VDD3

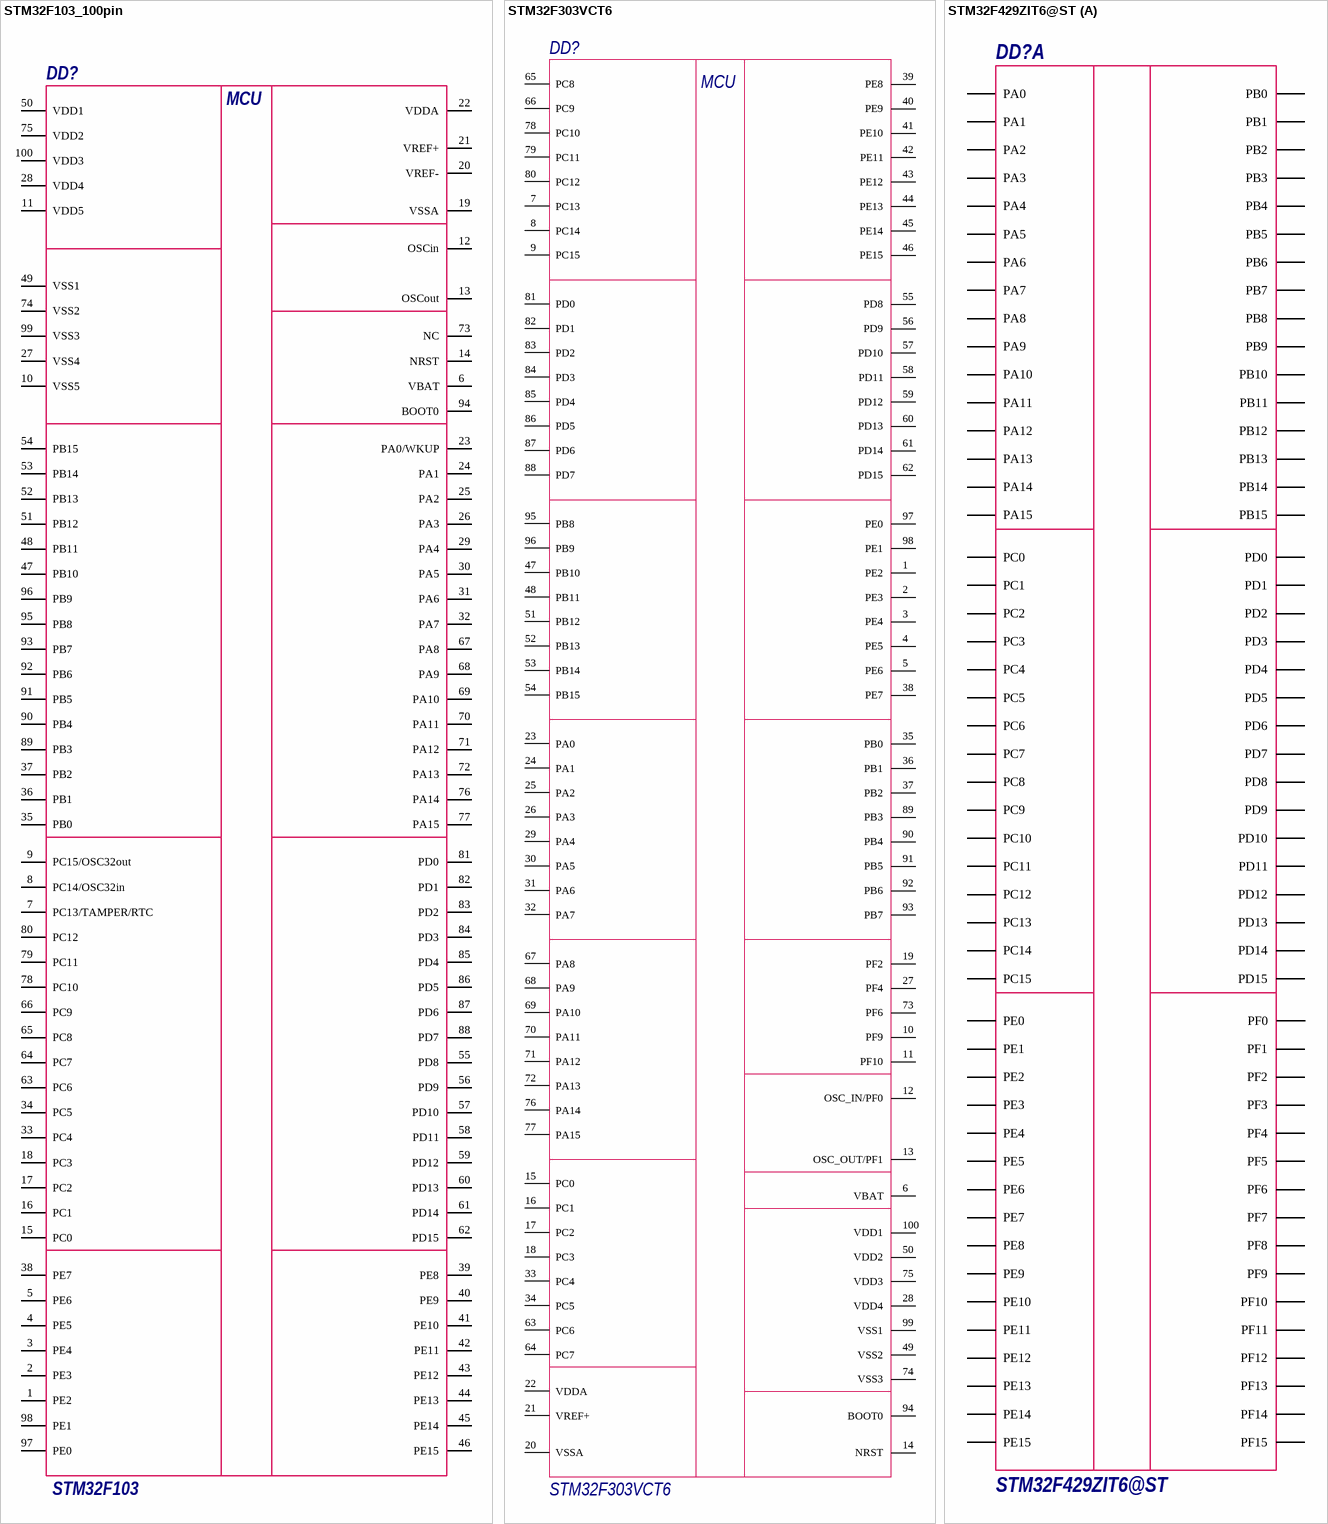
[diagram p9: symbols STM32F103_100pin to STM32F429ZIT6@ST]